# Altium schematic symbol library Main.SchLib: 196 symbols (part 2 of 4)
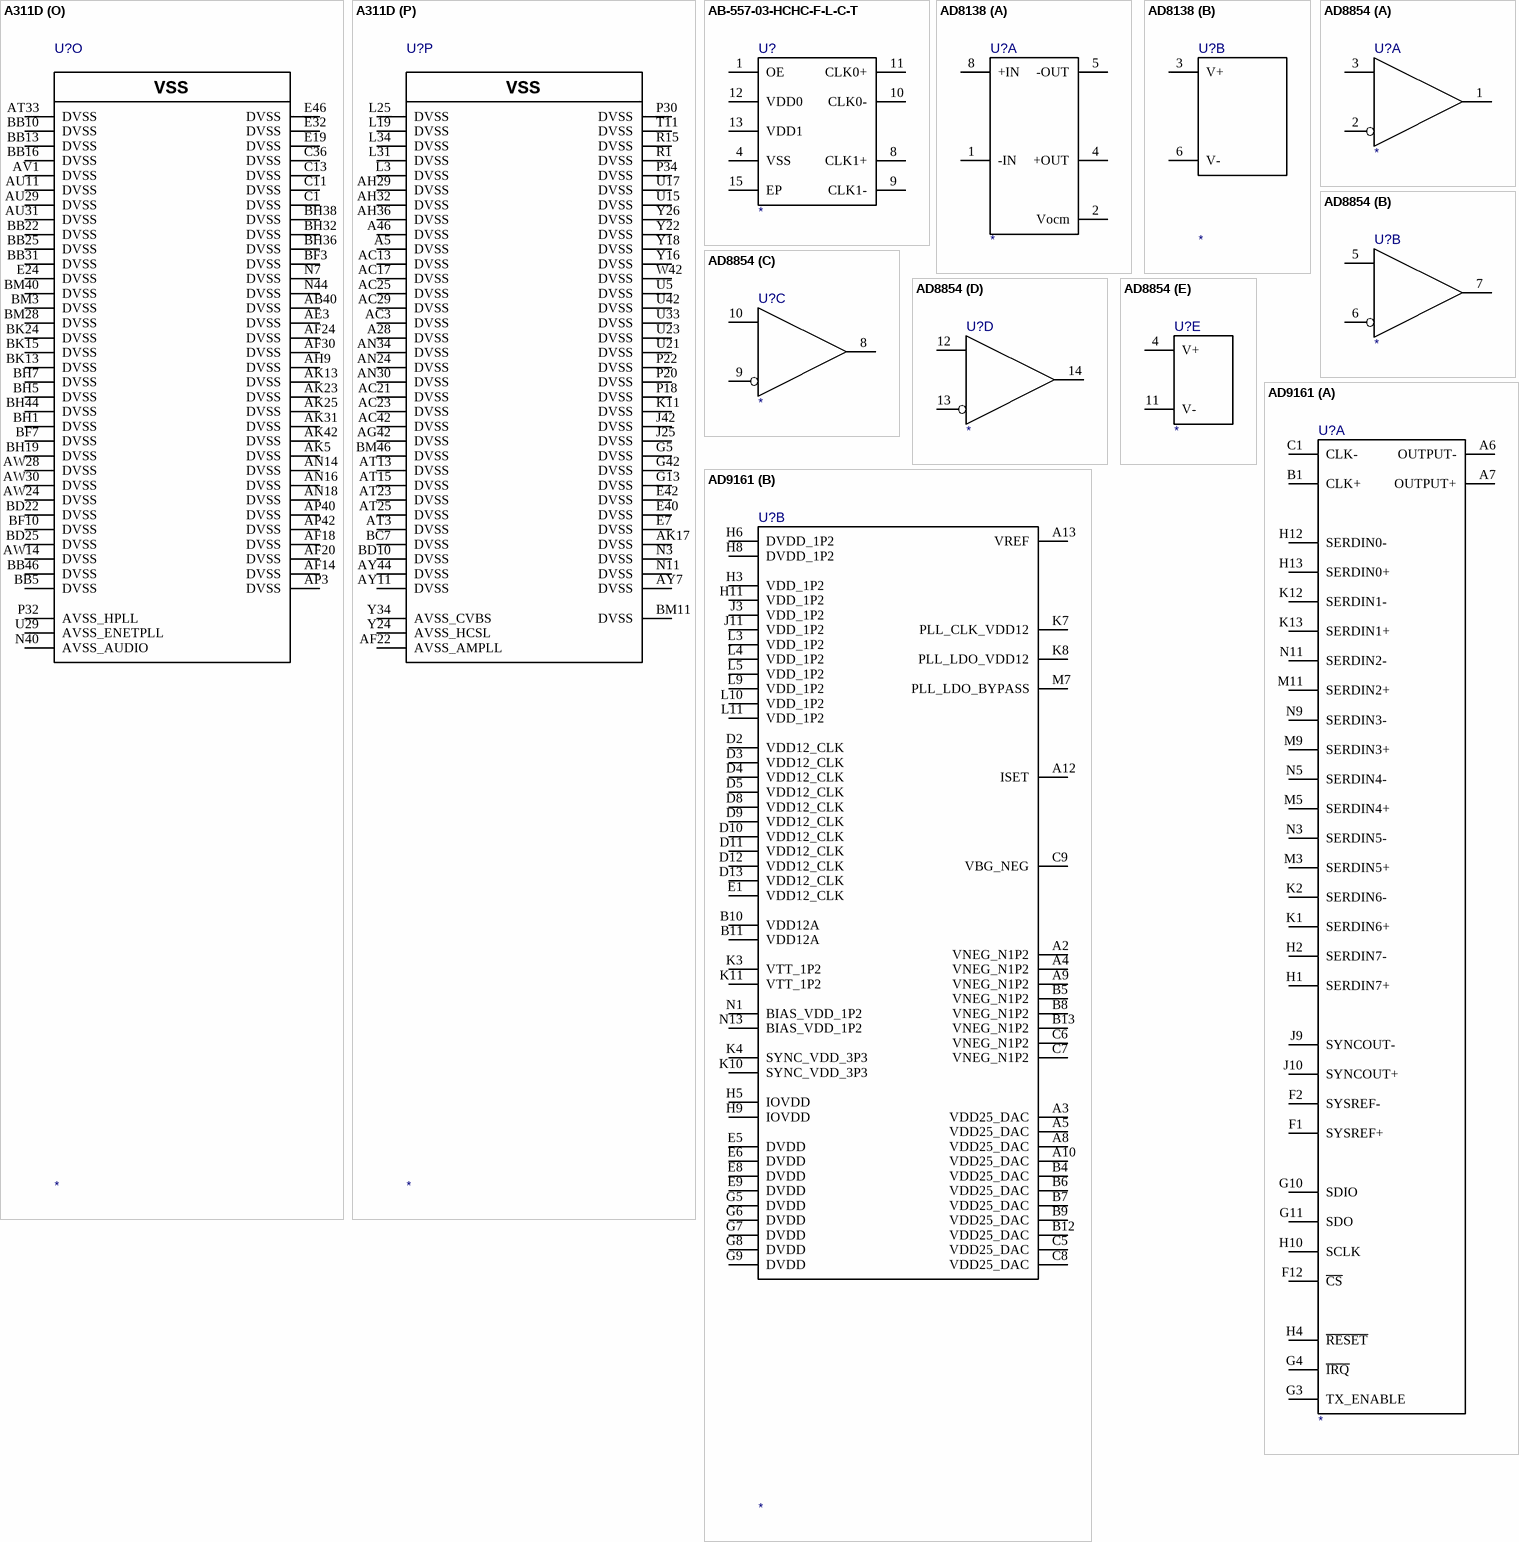
[diagram p41: symbols A311D to AD9161]

## A311D
designator U?
part A pins: A1 DDR_DQ31, A3 DDR_DQ30, A7 DDR_DQSP3, A11 DDR_DQ25, AA3 AC_25, AA5 AC_24, AB7 AC_5, AB9 AC_4, AB11 PZQ, AC1 AC_28, AC5 AC_22, AE5 AC_26, AE7 AC_6, AE9 AC_7, AE11 AC_12, AG1 AC_15, AG3 AC_14, AG5 AC_23, AH7 AC_13, AH11 AC_9, AK1 AC_11, AK3 AC_10, AL7 AC_17, AL9 AC_16, AL11 AC_3, AM3 AC_2, AM5 AC_36, AP1 AC_0, AP5 AC_18, AP7 DDR_DQM1, AP9 DDR_DQ15, AP11 AC_1, AT5 AC_8, AU9 DDR_DQ12, AV3 DDR_DQ14, AV5 DDR_DQ11, AY3 DDR_DQ10, AY5 DDR_DQ9, AY9 DDR_DQ13, BB1 DDR_DQSP1, BB3 DDR_DQSN1, BD3 DDR_DQ8, BD5 DDR_DQ7, BF1 DDR_DQ6, BF5 DDR_DQ5, BH3 DDR_DQ4, BK1 DDR_DQM0, BK3 DDR_DQSN0, BK5 DDR_DQ3, BK7 DDR_DQ1, BM1 DDR_DQSP0, BM5 DDR_DQ2, BM7 DDR_DQ0, C3 DDR_DQ18, C5 DDR_DQ29, C7 DDR_DQSN3, C9 DDR_DQ28, E3 DDR_DQ19, E5 DDR_DQ17, E9 DDR_DQ26, E13 DDR_DQ24, G1 DDR_DQ21, G3 DDR_DQ20, G8 DDR_DQ27, G11 DDR_DQM3, J3 DDR_DQSN2, J5 DDR_DQSP2, K7 DDR_DQM2, K9 DDR_DQ16, L1 DDR_DQ23, L5 DDR_DQ22, N5 AC_35, N9 AC_31, R3 AC_34, R5 AC_20, T7 AC_38, T9 DDR_RSTn, U3 AC_21, W1 AC_33, W3 AC_29, W5 AC_32, W7 AC_37, W9 AC_30, W11 PVREF
part B pins: AE42 DSI_CLKN, AE44 DSI_CLKP, AG46 DSI_D0P, AH44 DSI_D0N, AK44 DSI_D1P, AK46 DSI_D1N, AL36 DSI_CEXT, AL38 DSI_R1K, AL40 DSI_R600, AM42 DSI_D2N, AM44 DSI_D2P, AP44 DSI_D3P, AP46 DSI_D3N
part C pins: C46 HDMITX_2P, E44 HDMITX_2N, G34 HDMI_REXT, G44 HDMITX_1P, G46 HDMITX_1N, J34 HDMI_CEXT, J44 HDMITX_0N, J46 HDMITX_0P, L42 HDMITX_CKN, L44 HDMITX_CKP
part D pins: AA42 CSI_D3_P, AA44 CSI_D3_N, AB36 CSI_CLKA_P, AC44 CSI_D2_P, AC46 CSI_D2_N, AE36 CSI_CLKA_N, AE38 CSI_D1_N, AE40 CSI_D1_P, AH38 CSI_D0_N, AH40 CSI_D0_P, W44 CSI_CLKB_P, W46 CSI_CLKB_N
part E pins: A32 PCIE_RXP, C30 PCIE_CLK_p, C32 PCIE_RXN, C34 PCIE_TXN, E30 PCIE_CLK_n, E34 PCIE_TXP, J28 PCIE_REXT, L28 HCSL_REXT
part F pins: A42 ENET_TXP, A44 ENET_RXP, C42 ENET_TXN, C44 ENET_RXN, E36 ENET_EXTRES, U27 ENET_ATP
part G pins: A36 USBOTG_B_VBUS, A40 USBOTG_B_DM, C38 USBHOST_A_DM, C40 USBOTG_B_DP, E38 USBHOST_A_DP, G31 USB_TXRTUNE, J31 USBOTG_B_ID
part H pins: A15 GPIOA_8, A19 GPIOA_0, A24 GPIOC_4, AB38 GPIOH_7, BB34 GPIOX_8, BB42 GPIOZ_15, BC36 GPIOZ_1, BD31 GPIOX_10, BD34 GPIOX_9, BD42 GPIOZ_12, BD44 GPIOZ_13, BF31 GPIOX_17, BF34 GPIOX_11, BF36 GPIOZ_0, BF39 GPIOZ_14, BF42 GPIOZ_9, BF44 GPIOZ_11, BF46 GPIOZ_10, BH26 GPIOX_19, BH28 GPIOX_14, BH30 GPIOX_13, BH34 GPIOX_3, BH40 GPIOX_7, BH42 GPIOZ_6, BH46 GPIOZ_8, BK26 GPIOX_15, BK28 GPIOX_12, BK30 GPIOX_16, BK32 GPIOX_1, BK34 GPIOX_2, BK38 GPIOX_5, BK40 GPIOX_6, BK42 GPIOZ_2, BK44 GPIOZ_5, BK46 GPIOZ_7, BM24 GPIOX_18, BM32 GPIOX_0, BM36 GPIOX_4, BM42 GPIOZ_3, BM44 GPIOZ_4, C15 GPIOA_9, C17 GPIOA_3, C19 GPIOA_1, C21 GPIOC_2, C24 GPIOC_5, C26 GPIOC_0, C28 GPIOC_6, E15 GPIOA_6, E17 GPIOA_2, E21 GPIOC_3, E28 GPIOC_1, G16 GPIOA_4, G22 GPIOA_11, G25 GPIOA_10, G28 GPIOC_7, G37 GPIOH_8, H40 GPIOH_6, J13 GPIOA_5, J16 GPIOA_7, J19 GPIOA_12, J22 GPIOA_15, J37 GPIOH_1, L16 GPIOA_13, L22 GPIOA_14, L37 GPIOH_0, L40 GPIOH_3, N36 GPIOH_2, W38 GPIOH_5, W40 GPIOH_4
part I pins: T38 CVBS_RSET, T40 CVBS_VREF, U44 CVBS_IOUT, W36 CVBS_COMP
part J pins: N38 VMID, N42 LOLP, R42 LORN, R44 LOLN, R46 LORP, T36 REFP
part K pins: AY38 SARADC_CH0, AY40 SARADC_CH1, BC38 SARADC_CH2, BC40 SARADC_CH3
part L pins: BB19 BOOT_10, BD19 BOOT_11, BF19 BOOT_15, BF22 BOOT_9, BH9 BOOT_1, BH11 BOOT_3, BH13 BOOT_4, BH17 BOOT_6, BH24 BOOT_8, BK9 BOOT_0, BK11 BOOT_2, BK17 BOOT_7, BK19 BOOT_14, BK21 BOOT_12, BM15 BOOT_5, BM19 BOOT_13
part M pins: AK29 VDDAO_0V8, AN32 VDD18_AO_XTAL, AP36 GPIOAO_0, AP38 GPIOAO_1, AT42 GPIOAO_8, AT44 GPIOAO_9, AU36 GPIOAO_10, AU38 GPIOE_2, AU40 GPIOAO_2, AV42 RESET_N, AV44 GPIOAO_6, AV46 GPIOAO_7, AY36 VDDIO_AO, AY42 SYS_OSCIN, BB28 GPIOE_0, BB44 SYS_OSCOUT, BD13 GPIOAO_5, BD16 GPIOAO_4, BD28 GPIOE_1, BF13 GPIOAO_3, BF16 GPIOAO_11, BF28 TEST_N, U31 NC
part N pins: AC15 VDDQ, AC19 VDD_DDR, AC27 VDD_EE, AC31 AVDD18_AUDIO, AC33 AVDD18_CVBS, AF16 VDDQ, AF26 VDD_EE, AF28 VDD_EE, AF32 AVDD18_MIPICSI, AF34 AVDD18_MIPIDSI, AH14 AVDD_DDRPLL, AH17 VDD_DDR, AH20 VDDCPU_B, AH23 AVDD18_DPLL, AH26 VDD_EE, AK15 VDDQ, AK19 VDDCPU_B, AK21 VDDCPU_B, AK27 VDD_EE, AK33 AVDD18_SARADC, AM27 VDD_EE, AN20 VDDCPU_A, AN22 VDDCPU_A, AP27 VDD_EE, AT17 VDDCPU_A, AT19 VDDCPU_A, AT21 VDDCPU_A, AT27 VDD_EE, AW16 VDDCPU_A, AW18 VDDCPU_A, AW20 VDDCPU_A, AW22 VDDCPU_A, AW26 VDD_EE, AW32 VDDIO_Z, AW34 VDDIO_H, BF25 VDDIO_X, BH21 VDDIO_BOOT, E26 VDDIO_C, G19 VDDIO_A, L13 VDDQ, N15 VDDQ, P13 VDDQ, P24 AVDD18_PCIE, P26 AVDD18_ENET, P28 AVDD33_USB, U13 VDDQ, U19 VDD_EE, U25 AVDD18_USB, Y14 VDDQ, Y20 VDD_EE, Y28 AVDD0V8_USB_PCIE, Y30 AVDD0V8_HDMI, Y32 AVDD18_HDMI
part O pins: AB40 DVSS, AE3 DVSS, AF14 DVSS, AF18 DVSS, AF20 DVSS, AF24 DVSS, AF30 DVSS, AH9 DVSS, AK5 DVSS, AK13 DVSS, AK23 DVSS, AK25 DVSS, AK31 DVSS, AK42 DVSS, AN14 DVSS, AN16 DVSS, AN18 DVSS, AP3 DVSS, AP40 DVSS, AP42 DVSS, AT33 DVSS, AU11 DVSS, AU29 DVSS, AU31 DVSS, AV1 DVSS, AW14 DVSS, AW24 DVSS, AW28 DVSS, AW30 DVSS, BB5 DVSS, BB10 DVSS, BB13 DVSS, BB16 DVSS, BB22 DVSS, BB25 DVSS, BB31 DVSS, BB46 DVSS, BD22 DVSS, BD25 DVSS, BF3 DVSS, BF7 DVSS, BF10 DVSS, BH1 DVSS, BH5 DVSS, BH7 DVSS, BH19 DVSS, BH32 DVSS, BH36 DVSS, BH38 DVSS, BH44 DVSS, BK13 DVSS, BK15 DVSS, BK24 DVSS, BM3 DVSS, BM28 DVSS, BM40 DVSS, C1 DVSS, C11 DVSS, C13 DVSS, C36 DVSS, E19 DVSS, E24 DVSS, E32 DVSS, E46 DVSS, N7 DVSS, N40 AVSS_AUDIO, N44 DVSS, P32 AVSS_HPLL, U29 AVSS_ENETPLL
part P pins: A5 DVSS, A28 DVSS, A46 DVSS, AC3 DVSS, AC13 DVSS, AC17 DVSS, AC21 DVSS, AC23 DVSS, AC25 DVSS, AC29 DVSS, AC42 DVSS, AF22 AVSS_AMPLL, AG42 DVSS, AH29 DVSS, AH32 DVSS, AH36 DVSS, AK17 DVSS, AN24 DVSS, AN30 DVSS, AN34 DVSS, AT3 DVSS, AT13 DVSS, AT15 DVSS, AT23 DVSS, AT25 DVSS, AY7 DVSS, AY11 DVSS, AY44 DVSS, BC7 DVSS, BD10 DVSS, BM11 DVSS, BM46 DVSS, E7 DVSS, E40 DVSS, E42 DVSS, G5 DVSS, G13 DVSS, G42 DVSS, J25 DVSS, J42 DVSS, K11 DVSS, L3 DVSS, L19 DVSS, L25 DVSS, L31 DVSS, L34 DVSS, N3 DVSS, N11 DVSS, P18 DVSS, P20 DVSS, P22 DVSS, P30 DVSS, P34 DVSS, R1 DVSS, R15 DVSS, T11 DVSS, U5 DVSS, U15 DVSS, U17 DVSS, U21 DVSS, U23 DVSS, U33 DVSS, U42 DVSS, W42 DVSS, Y16 DVSS, Y18 DVSS, Y22 DVSS, Y24 AVSS_HCSL, Y26 DVSS, Y34 AVSS_CVBS
part A text: DDR INTERFACE
part B text: DSI
part C text: HDMI
part D text: CSI
part E text: PCIe
part F text: ETHERNET
part G text: USB
part H text: GPIO
part I text: CVBS
part J text: AUDIO DAC
part K text: ADC
part L text: BOOT IO
part M text: SYSTEM
part N text: VDD
part O text: VSS
part P text: VSS

## AB-557-03-HCHC-F-L-C-T
designator U?
pins: 1 OE, 4 VSS, 8 CLK1+, 9 CLK1-, 10 CLK0-, 11 CLK0+, 12 VDD0, 13 VDD1, 15 EP

## AD8138
designator U?
part A pins: 1 -IN, 2 Vocm, 4 +OUT, 5 -OUT, 8 +IN
part B pins: 3 V+, 6 V-

## AD8854
designator U?
part A pins: 1 OUTA, 2 -INA, 3 +INA
part B pins: 5 +INB, 6 -INB, 7 OUTB
part C pins: 8 OUTC, 9 -INC, 10 +INC
part D pins: 12 +IND, 13 -IND, 14 OUTD
part E pins: 4 V+, 11 V-

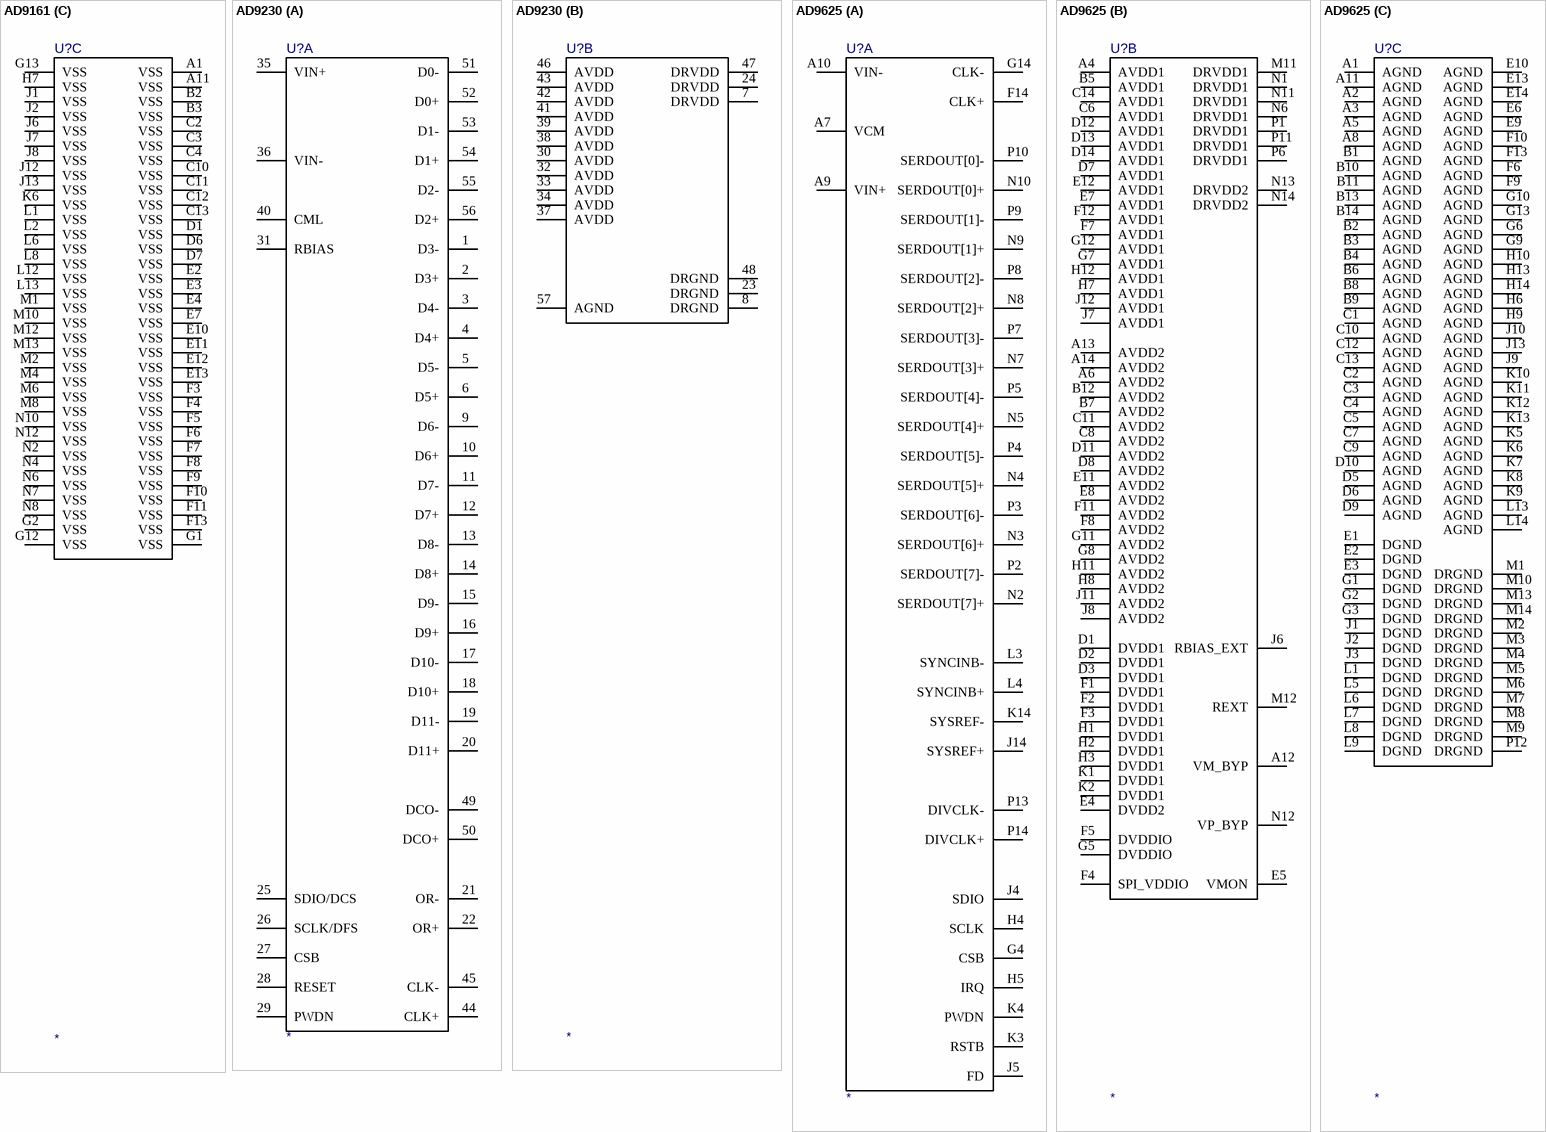
[diagram p17: symbols AD9161 to AD9625]

## AD9161
designator U?
part A pins: A6 OUTPUT-, A7 OUTPUT+, B1 CLK+, C1 CLK-, F1 SYSREF+, F2 SYSREF-, F12 ~{CS}, G3 TX_ENABLE, G4 ~{IRQ}, G10 SDIO, G11 SDO, H1 SERDIN7+, H2 SERDIN7-, H4 ~{RESET}, H10 SCLK, H12 SERDIN0-, H13 SERDIN0+, J9 SYNCOUT-, J10 SYNCOUT+, K1 SERDIN6+, K2 SERDIN6-, K12 SERDIN1-, K13 SERDIN1+, M3 SERDIN5+, M5 SERDIN4+, M9 SERDIN3+, M11 SERDIN2+, N3 SERDIN5-, N5 SERDIN4-, N9 SERDIN3-, N11 SERDIN2-
part B pins: A2 VNEG_N1P2, A3 VDD25_DAC, A4 VNEG_N1P2, A5 VDD25_DAC, A8 VDD25_DAC, A9 VNEG_N1P2, A10 VDD25_DAC, A12 ISET, A13 VREF, B4 VDD25_DAC, B5 VNEG_N1P2, B6 VDD25_DAC, B7 VDD25_DAC, B8 VNEG_N1P2, B9 VDD25_DAC, B10 VDD12A, B11 VDD12A, B12 VDD25_DAC, B13 VNEG_N1P2, C5 VDD25_DAC, C6 VNEG_N1P2, C7 VNEG_N1P2, C8 VDD25_DAC, C9 VBG_NEG, D2 VDD12_CLK, D3 VDD12_CLK, D4 VDD12_CLK, D5 VDD12_CLK, D8 VDD12_CLK, D9 VDD12_CLK, D10 VDD12_CLK, D11 VDD12_CLK, D12 VDD12_CLK, D13 VDD12_CLK, E1 VDD12_CLK, E5 DVDD, E6 DVDD, E8 DVDD, E9 DVDD, G5 DVDD, G6 DVDD, G7 DVDD, G8 DVDD, G9 DVDD, H3 VDD_1P2, H5 IOVDD, H6 DVDD_1P2, H8 DVDD_1P2, H9 IOVDD, H11 VDD_1P2, J3 VDD_1P2, J11 VDD_1P2, K3 VTT_1P2, K4 SYNC_VDD_3P3, K7 PLL_CLK_VDD12, K8 PLL_LDO_VDD12, K10 SYNC_VDD_3P3, K11 VTT_1P2, L3 VDD_1P2, L4 VDD_1P2, L5 VDD_1P2, L9 VDD_1P2, L10 VDD_1P2, L11 VDD_1P2, M7 PLL_LDO_BYPASS, N1 BIAS_VDD_1P2, N13 BIAS_VDD_1P2
part C pins: A1 VSS, A11 VSS, B2 VSS, B3 VSS, C2 VSS, C3 VSS, C4 VSS, C10 VSS, C11 VSS, C12 VSS, C13 VSS, D1 VSS, D6 VSS, D7 VSS, E2 VSS, E3 VSS, E4 VSS, E7 VSS, E10 VSS, E11 VSS, E12 VSS, E13 VSS, F3 VSS, F4 VSS, F5 VSS, F6 VSS, F7 VSS, F8 VSS, F9 VSS, F10 VSS, F11 VSS, F13 VSS, G1 VSS, G2 VSS, G12 VSS, G13 VSS, H7 VSS, J1 VSS, J2 VSS, J6 VSS, J7 VSS, J8 VSS, J12 VSS, J13 VSS, K6 VSS, L1 VSS, L2 VSS, L6 VSS, L8 VSS, L12 VSS, L13 VSS, M1 VSS, M2 VSS, M4 VSS, M6 VSS, M8 VSS, M10 VSS, M12 VSS, M13 VSS, N2 VSS, N4 VSS, N6 VSS, N7 VSS, N8 VSS, N10 VSS, N12 VSS

## AD9230
designator U?
part A pins: 1 D3- "D3 Complement Output Bit.", 2 D3+ "D3 True Output Bit.", 3 D4- "D4 Complement Output Bit.", 4 D4+ "D4 True Output Bit.", 5 D5- "D5 Complement Output Bit.", 6 D5+ "D5 True Output Bit.", 9 D6- "D6 Complement Output Bit.", 10 D6+ "D6 True Output Bit.", 11 D7- "D7 Complement Output Bit.", 12 D7+ "D7 True Output Bit.", 13 D8- "D8 Complement Output Bit.", 14 D8+ "D8 True Output Bit.", 15 D9- "D9 Complement Output Bit.", 16 D9+ "D9 True Output Bit.", 17 D10- "D10 Complement Output Bit.", 18 D10+ "D10 True Output Bit.", 19 D11- "D11 Complement Output Bit (MSB).", 20 D11+ "D11 True Output Bit (MSB).", 21 OR- "Overrange Complement Output Bit.", 22 OR+ "Overrange True Output Bit.", 25 SDIO/DCS "Serial Port Interface (SPI) Data Input/Output (Serial Port Mode); Duty Cycle Stabilizer Select (External Pin Mode).", 26 SCLK/DFS "Serial Port Interface Clock (Serial Port Mode); Data Format Select Pin (External Pin Mode).", 27 CSB "Serial Port Chip Select (Active Low).", 28 RESET "CMOS-Compatible Chip Reset (Active Low).", 29 PWDN "Chip Power-Down.", 31 RBIAS "Set Pin for Chip Bias Current. (Place 1 % 10 kOhm resistor terminated to ground.) Nominally 0.5 V.", 35 VIN+ "Analog Input—True.", 36 VIN- "Analog Input—Complement.", 40 CML "Common-Mode Output Pin. Enabled through the SPI, this pin provides a reference for the optimized internal bias voltage for VIN+/VIN-.", 44 CLK+ "Clock Input—True.", 45 CLK- "Clock Input—Complement.", 49 DCO- "Data Clock Output—Complement.", 50 DCO+ "Data Clock Output—True.", 51 D0- "DO Complement Output Bit (LSB).", 52 D0+ "DO True Output Bit (LSB).", 53 D1- "D1 Complement Output Bit.", 54 D1+ "D1 True Output Bit.", 55 D2- "D2 Complement Output Bit.", 56 D2+ "D2 True Output Bit."
part B pins: 7 DRVDD "1.8 V Digital Output Supply.", 8 DRGND "Digital Output Ground.", 23 DRGND "Digital Output Ground.", 24 DRVDD "1.8 V Digital Output Supply.", 30 AVDD "1.8 V Analog Supply.", 32 AVDD "1.8 V Analog Supply.", 33 AVDD "1.8 V Analog Supply.", 34 AVDD "1.8 V Analog Supply.", 37 AVDD "1.8 V Analog Supply.", 38 AVDD "1.8 V Analog Supply.", 39 AVDD "1.8 V Analog Supply.", 41 AVDD "1.8 V Analog Supply.", 42 AVDD "1.8 V Analog Supply.", 43 AVDD "1.8 V Analog Supply.", 46 AVDD "1.8 V Analog Supply.", 47 DRVDD "1.8 V Digital Output Supply.", 48 DRGND "Digital Output Ground.", 57 AGND "Analog Ground."

## AD9625
designator U?
part A pins: A7 VCM "Analog Input, Common Mode (0.525 V).", A9 VIN+ "Differential Analog Input, True.", A10 VIN- "Differential Analog Input, Complement.", F14 CLK+ "ADC Clock Input, True.", G4 CSB "SPI Chip Select CMOS Input. Active low.", G14 CLK- "ADC Clock Input, Complement.", H4 SCLK "SPI Serial Clock CMOS Input.", H5 IRQ "Interrupt Request Output Signal.", J4 SDIO "SPI Serial Data CMOS Input/Output; Scan Output 1.", J5 FD "Fast Detect Output. This pin requires an external 10 kOhm resistor connected to ground.", J14 SYSREF+ "System Reference Chip Synchronization, True.", K3 RSTB "Chip Digital Reset, Active Low.", K4 PWDN "Power-down.", K14 SYSREF- "System Reference Chip Synchronization, Complement.", L3 SYNCINB- "Synchronization, Complement.", L4 SYNCINB+ "Synchronization, True. SYNCINB LVDS input (active low, true).", N2 SERDOUT[7]+ "Lane 7 CML Output Data, True.", N3 SERDOUT[6]+ "Lane 6 CML Output Data, True.", N4 SERDOUT[5]+ "Lane 5 CML Output Data, True.", N5 SERDOUT[4]+ "Lane 4 CML Output Data, True.", N7 SERDOUT[3]+ "Lane 3 CML Output Data, True.", N8 SERDOUT[2]+ "Lane 2 CML Output Data, True.", N9 SERDOUT[1]+ "Lane 1 CML Output Data, True.", N10 SERDOUT[0]+ "Lane 0 CML Output Data, True.", P2 SERDOUT[7]- "Lane 7 CML Output Data, Complement.", P3 SERDOUT[6]- "Lane 6 CML Output Data, Complement.", P4 SERDOUT[5]- "Lane 5 CML Output Data, Complement.", P5 SERDOUT[4]- "Lane 4 CML Output Data, Complement.", P7 SERDOUT[3]- "Lane 3 CML Output Data, Complement.", P8 SERDOUT[2]- "Lane 2 CML Output Data, Complement.", P9 SERDOUT[1]- "Lane 1 CML Output Data, Complement.", P10 SERDOUT[0]- "Lane 0 CML Output Data, Complement.", P13 DIVCLK- "Divide-by-4 Reference Clock LVDS, Complement.", P14 DIVCLK+ "Divide-by-4 Reference Clock LVDS, True."
part B pins: A4 AVDD1 "ADC Analog Power Supply (1.30 V).", A6 AVDD2 "ADC Analog Power Supply (2.50 V).", A12 VM_BYP "Voltage Bypass.", A13 AVDD2 "ADC Analog Power Supply (2.50 V).", A14 AVDD2 "ADC Analog Power Supply (2.50 V).", B5 AVDD1 "ADC Analog Power Supply (1.30 V).", B7 AVDD2 "ADC Analog Power Supply (2.50 V).", B12 AVDD2 "ADC Analog Power Supply (2.50 V).", C6 AVDD1 "ADC Analog Power Supply (1.30 V).", C8 AVDD2 "ADC Analog Power Supply (2.50 V).", C11 AVDD2 "ADC Analog Power Supply (2.50 V).", C14 AVDD1 "ADC Analog Power Supply (1.30 V).", D1 DVDD1 "ADC Digital Power Supply (1.30 V).", D2 DVDD1 "ADC Digital Power Supply (1.30 V).", D3 DVDD1 "ADC Digital Power Supply (1.30 V).", D7 AVDD1 "ADC Analog Power Supply (1.30 V).", D8 AVDD2 "ADC Analog Power Supply (2.50 V).", D11 AVDD2 "ADC Analog Power Supply (2.50 V).", D12 AVDD1 "ADC Analog Power Supply (1.30 V).", D13 AVDD1 "ADC Analog Power Supply (1.30 V).", D14 AVDD1 "ADC Analog Power Supply (1.30 V).", E4 DVDD2 "ADC Digital Power Supply (2.5 V).", E5 VMON "CTAT Voltage Monitor Output.", E7 AVDD1 "ADC Analog Power Supply (1.30 V).", E8 AVDD2 "ADC Analog Power Supply (2.50 V).", E11 AVDD2 "ADC Analog Power Supply (2.50 V).", E12 AVDD1 "ADC Analog Power Supply (1.30 V).", F1 DVDD1 "ADC Digital Power Supply (1.30 V).", F2 DVDD1 "ADC Digital Power Supply (1.30 V).", F3 DVDD1 "ADC Digital Power Supply (1.30 V).", F4 SPI_VDDIO "SPI Digital Power Supply (2.50 V).", F5 DVDDIO "Digital I/O Power Supply (2.50 V).", F7 AVDD1 "ADC Analog Power Supply (1.30 V).", F8 AVDD2 "ADC Analog Power Supply (2.50 V).", F11 AVDD2 "ADC Analog Power Supply (2.50 V).", F12 AVDD1 "ADC Analog Power Supply (1.30 V).", G5 DVDDIO "Digital I/O Power Supply (2.50 V).", G7 AVDD1 "ADC Analog Power Supply (1.30 V).", G8 AVDD2 "ADC Analog Power Supply (2.50 V).", G11 AVDD2 "ADC Analog Power Supply (2.50 V).", G12 AVDD1 "ADC Analog Power Supply (1.30 V).", H1 DVDD1 "ADC Digital Power Supply (1.30 V).", H2 DVDD1 "ADC Digital Power Supply (1.30 V).", H3 DVDD1 "ADC Digital Power Supply (1.30 V).", H7 AVDD1 "ADC Analog Power Supply (1.30 V).", H8 AVDD2 "ADC Analog Power Supply (2.50 V).", H11 AVDD2 "ADC Analog Power Supply (2.50 V).", H12 AVDD1 "ADC Analog Power Supply (1.30 V).", J6 RBIAS_EXT "Reference Bias. This pin requires an external 10 kOhm resistor connected to ground.", J7 AVDD1 "ADC Analog Power Supply (1.30 V).", J8 AVDD2 "ADC Analog Power Supply (2.50 V).", J11 AVDD2 "ADC Analog Power Supply (2.50 V).", J12 AVDD1 "ADC Analog Power Supply (1.30 V).", K1 DVDD1 "ADC Digital Power Supply (1.30 V).", K2 DVDD1 "ADC Digital Power Supply (1.30 V).", M11 DRVDD1 "Power Supply (1.3 V) Reference Clock Divider, VCO, and Synthesizer.", M12 REXT "External Resistor, 10 kOhm to Ground.", N1 DRVDD1 "Serial Digital Power Supply (1.3 V).", N6 DRVDD1 "Serial Digital Power Supply (1.3 V).", N11 DRVDD1 "Serial Digital Power Supply (1.3 V).", N12 VP_BYP "Voltage Bypass.", N13 DRVDD2 "Power Supply (2.5 V) Reference Clock Divider for SYNCINB±, DIVCLK±.", N14 DRVDD2 "Power Supply (2.5 V) Reference Clock Divider for SYNCINB±, DIVCLK±.", P1 DRVDD1 "Serial Digital Power Supply (1.3 V).", P6 DRVDD1 "Serializer Digital Power Supply (1.30 V).", P11 DRVDD1 "Serializer Digital Power Supply (1.30 V)."
part C pins: A1 AGND "ADC Analog Ground. These pins connect to the analog ground plane.", A2 AGND "ADC Analog Ground. These pins connect to the analog ground plane.", A3 AGND "ADC Analog Ground. These pins connect to the analog ground plane.", A5 AGND "ADC Analog Ground. This pin connects to the analog ground plane.", A8 AGND "ADC Analog Ground. This pin connects to the analog ground plane.", A11 AGND "ADC Analog Ground. This pin connects to the analog ground plane.", B1 AGND "ADC Analog Ground. These pins connect to the analog ground plane.", B2 AGND "ADC Analog Ground. These pins connect to the analog ground plane.", B3 AGND "ADC Analog Ground. These pins connect to the analog ground plane.", B4 AGND "ADC Analog Ground. These pins connect to the analog ground plane.", B6 AGND "ADC Analog Ground. This pin connects to the analog ground plane.", B8 AGND "ADC Analog Ground. These pins connect to the analog ground plane.", B9 AGND "ADC Analog Ground. These pins connect to the analog ground plane.", B10 AGND "ADC Analog Ground. These pins connect to the analog ground plane.", B11 AGND "ADC Analog Ground. These pins connect to the analog ground plane.", B13 AGND "ADC Analog Ground. These pins connect to the analog ground plane.", B14 AGND "ADC Analog Ground. These pins connect to the analog ground plane.", C1 AGND "ADC Analog Ground. These pins connect to the analog ground plane.", C2 AGND "ADC Analog Ground. These pins connect to the analog ground plane.", C3 AGND "ADC Analog Ground. These pins connect to the analog ground plane.", C4 AGND "ADC Analog Ground. These pins connect to the analog ground plane.", C5 AGND "ADC Analog Ground. These pins connect to the analog ground plane.", C7 AGND "ADC Analog Ground. This pin connects to the analog ground plane.", C9 AGND "ADC Analog Ground. These pins connect to the analog ground plane.", C10 AGND "ADC Analog Ground. These pins connect to the analog ground plane.", C12 AGND "ADC Analog Ground. These pins connect to the analog ground plane.", C13 AGND "ADC Analog Ground. These pins connect to the analog ground plane.", D5 AGND "ADC Analog Ground. These pins connect to the analog ground plane.", D6 AGND "ADC Analog Ground. These pins connect to the analog ground plane.", D9 AGND "ADC Analog Ground. These pins connect to the analog ground plane.", D10 AGND "ADC Analog Ground. These pins connect to the analog ground plane.", E1 DGND "Digital Control Ground Supply. These pins connect to the digital ground plane.", E2 DGND "Digital Control Ground Supply. These pins connect to the digital ground plane.", E3 DGND "Digital Control Ground Supply. These pins connect to the digital ground plane.", E6 AGND "ADC Analog Ground. This pin connects to the analog ground plane.", E9 AGND "ADC Analog Ground. These pins connect to the analog ground plane.", E10 AGND "ADC Analog Ground. These pins connect to the analog ground plane.", E13 AGND "ADC Analog Ground. These pins connect to the analog ground plane.", E14 AGND "ADC Analog Ground. These pins connect to the analog ground plane.", F6 AGND "ADC Analog Ground. This pin connects to the analog ground plane.", F9 AGND "ADC Analog Ground. These pins connect to the analog ground plane.", F10 AGND "ADC Analog Ground. These pins connect to the analog ground plane.", F13 AGND "ADC Analog Ground. This pin connects to the analog ground plane.", G1 DGND "Digital Control Ground Supply. These pins connect to the digital ground plane.", G2 DGND "Digital Control Ground Supply. These pins connect to the digital ground plane.", G3 DGND "Digital Control Ground Supply. These pins connect to the digital ground plane.", G6 AGND "ADC Analog Ground. This pin connects to the analog ground plane.", G9 AGND "ADC Analog Ground. These pins connect to the analog ground plane.", G10 AGND "ADC Analog Ground. These pins connect to the analog ground plane.", G13 AGND "ADC Analog Ground. This pin connects to the analog ground plane.", H6 AGND "ADC Analog Ground. This pin connects to the analog ground plane.", H9 AGND "ADC Analog Ground. These pins connect to the analog ground plane.", H10 AGND "ADC Analog Ground. These pins connect to the analog ground plane.", H13 AGND "ADC Analog Ground. These pins connect to the analog ground plane.", H14 AGND "ADC Analog Ground. These pins connect to the analog ground plane.", J1 DGND "Digital Control Ground Supply. These pins connect to the digital ground plane.", J2 DGND "Digital Control Ground Supply. These pins connect to the digital ground plane.", J3 DGND "Digital Control Ground Supply. These pins connect to the digital ground plane.", J9 AGND "ADC Analog Ground. These pins connect to the analog ground plane.", J10 AGND "ADC Analog Ground. These pins connect to the analog ground plane.", J13 AGND "ADC Analog Ground. This pin connects to the analog ground plane.", K5 AGND "ADC Analog Ground. These pins connect to the analog ground plane.", K6 AGND "ADC Analog Ground. These pins connect to the analog ground plane.", K7 AGND "ADC Analog Ground. These pins connect to the analog ground plane.", K8 AGND "ADC Analog Ground. These pins connect to the analog ground plane.", K9 AGND "ADC Analog Ground. These pins connect to the analog ground plane.", K10 AGND "ADC Analog Ground. These pins connect to the analog ground plane.", K11 AGND "ADC Analog Ground. These pins connect to the analog ground plane.", K12 AGND "ADC Analog Ground. These pins connect to the analog ground plane.", K13 AGND "ADC Analog Ground. These pins connect to the analog ground plane.", L1 DGND "Digital Control Ground Supply. This pin connects to the digital ground plane.", L5 DGND "Digital Control Ground Supply. These pins connect to the digital ground plane.", L6 DGND "Digital Control Ground Supply. These pins connect to the digital ground plane.", L7 DGND "Digital Control Ground Supply. These pins connect to the digital ground plane.", L8 DGND "Digital Control Ground Supply. These pins connect to the digital ground plane.", L9 DGND "Digital Control Ground Supply. These pins connect to the digital ground plane.", L13 AGND "ADC Analog Ground. These pins connect to the analog ground plane.", L14 AGND "ADC Analog Ground. These pins connect to the analog ground plane.", M1 DRGND "Digital Driver Ground Supply. These pins connect to the digital driver ground plane.", M2 DRGND "Digital Driver Ground Supply. These pins connect to the digital driver ground plane.", M3 DRGND "Digital Driver Ground Supply. These pins connect to the digital driver ground plane.", M4 DRGND "Digital Driver Ground Supply. These pins connect to the digital driver ground plane.", M5 DRGND "Digital Driver Ground Supply. These pins connect to the digital driver ground plane.", M6 DRGND "Digital Driver Ground Supply. These pins connect to the digital driver ground plane.", M7 DRGND "Digital Driver Ground Supply. These pins connect to the digital driver ground plane.", M8 DRGND "Digital Driver Ground Supply. These pins connect to the digital driver ground plane.", M9 DRGND "Digital Driver Ground Supply. These pins connect to the digital driver ground plane.", M10 DRGND "Digital Driver Ground Supply. These pins connect to the digital driver ground plane.", M13 DRGND "Digital Driver Ground Supply. This pin connects to the digital driver ground plane.", M14 DRGND "Digital Driver Ground Supply. This pin connects to the digital driver ground plane.", P12 DRGND "Digital Driver Ground Supply. This pin connects to the digital driver ground plane."

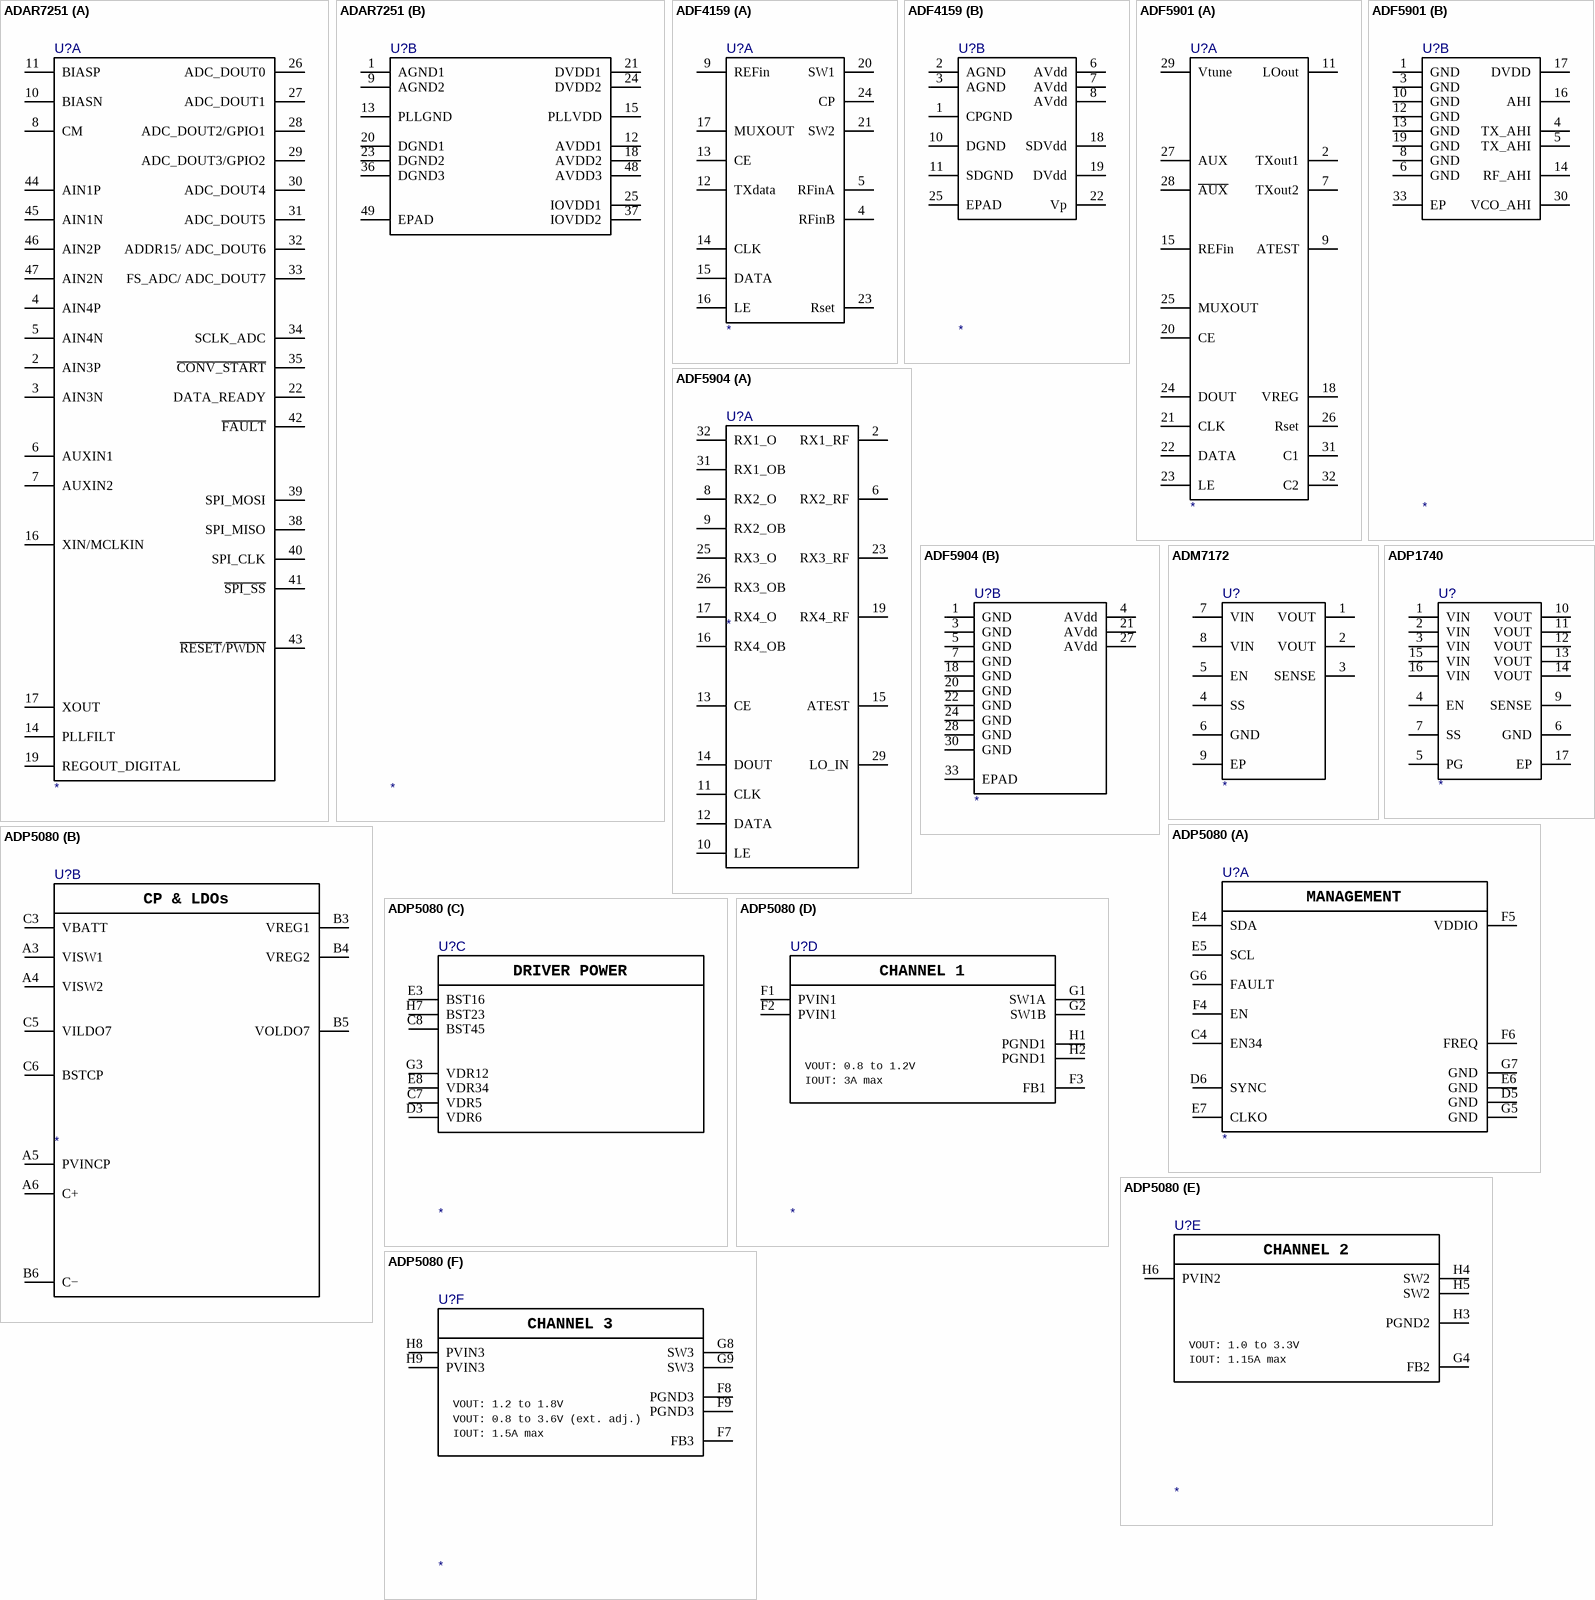
[diagram p18: symbols ADAR7251 to ADP5080]

## ADAR7251
designator U?
part A pins: 2 AIN3P "Noninverting Input to Differential Analog Channel 3.", 3 AIN3N "Inverting Input to Differential Analog Channel 3.", 4 AIN4P "Noninverting Input to Differential Analog Channel 4.", 5 AIN4N "Inverting Input to Differential Analog Channel 4.", 6 AUXIN1 "Auxiliary ADC Analog Input 1. Single-ended analog input channel.", 7 AUXIN2 "Auxiliary ADC Analog Input 2. Single-ended analog input channel.", 8 CM "ADC Reference Output. Connect a 10 pF capacitor in parallel with a 100 nF capacitor from this pin to AGNDx.", 10 BIASN "Internal Bias Generator. Decouple to AGNDx using a 0.47 pF capacitor.", 11 BIASP "Internal Bias Generator. Decouple to AVDDx using a 0.47 pF capacitor.", 14 PLLFILT "Filter Components Connection for PLL. See Figure 60.", 16 XIN/MCLKIN "Internal Oscillator Input/Clock Input. If using an external crystal, connect it between the XIN and XOUT pins. If not using a crystal, a single-ended clock must be provided at the MCLKIN pin. The ADAR7251 accepts a clock frequency range of 16 MHz to 54 MHz.", 17 XOUT "Internal Oscillator Output Connection for External Crystal.", 19 REGOUT_DIGITAL "LDO Regulator Output for Internal Digital Core (1.8 V, Typical). Decouple to DGNDx. See Figure 60. Connect REGOUT-DIGITAL to the DVDDx pins if using the internal regulator to supplythe 1.8 V to the digital core.", 22 DATA_READY "ADC Conversion Data Ready Output. Connect to the DSP general-purpose input/output (GPIO) in the system.", 26 ADC_DOUT0 "ADC Data Output (Serial Mode) or ADC Data Output Bit 0 and Bit 8 (PPI Mode). Refer to the ADC Serial Mode and ADC PPI (Byte Wide Mode) sections for function information.", 27 ADC_DOUT1 "ADC Data Output (Serial Mode) or ADC Data Output Bit 1/9 (PPI Mode). Refer to the ADC Serial Mode and ADC PPI (Byte Wide Mode) sections for function information.", 28 ADC_DOUT2/GPIO1 "ADC Data Output Bit 2 and Bit 10 (PPI Mode)/General-Purpose Input/Output 1. Refer to the ADC Serial Mode section for function information.", 29 ADC_DOUT3/GPIO2 "ADC Data Output Bit 3 and Bit 11 (PPI Mode)/General-Purpose Input/Output 2. Refer to the ADC PPI (Byte Wide Mode) section for function information.", 30 ADC_DOUT4 "ADC Data Output Bit 4 and Bit 12 (PPI Mode). Refer to the ADC PPI (Byte Wide Mode) section for function information.", 31 ADC_DOUT5 "ADC Data Output Bit 5 and Bit 13 (PPI Mode). Refer to the ADC PPI (Byte Wide Mode) section for function information.", 32 ADDR15/ ADC_DOUT6 "Device Address Setting for the SPI Control Interface/ADC Data Output Bit 6 and Bit 14 in PPI mode. This pin sets Bit 1 of the SPI device address. Connect to either DGNDx or lOVDDx as desired using a 10 kO pull-down or pull-up resistor. Refer to the ADC PPI (Byte Wide Mode) section for function information.", 33 FS_ADC/ ADC_DOUT7 "Active Low Frame Synchronization Signal for Default ADC Data (Serial Mode)/ADC Data Output Bit 7 and Bit 15 (PPI Mode). Refer to the ADC PPI (Byte Wide Mode) section for function information.", 34 SCLK_ADC "Serial Bit Clock for the ADC Data Output (Serial Mode and PPI Mode). This pin is an input in slave mode or is an output in master mode.", 35 ~{CONV_START} "ADC Conversion Start in DAQ/PPI/Serial Mode (Active Low). An active low signal initiates an ADC conversion. See the Theory of Operation section for further details.", 38 SPI_MISO "SPI Control Interface Slave Data Output.", 39 SPI_MOSI "SPI Control Interface Slave Data Input.", 40 SPI_CLK "SPI Control Interface Serial clock Input.", 41 ~{SPI_SS} "SPI Control Interface Slave Select (Active Low Input). Connect an external 10k pull-up resistor to lOVDDx.", 42 ~{FAULT} "Digital Output. This pin becomes active under fault condition. Connect an external 10k pull-up resistor to lOVDDx. This pin can be used as an interrupt input to the microcontroller or DSP in case of faults.", 43 ~{RESET}/~{PWDN} "Active Low Reset Input/Power-Down. The ADAR7251 requires an external reset signal to hold the RESET input low until AVDDx is within the specified operating range. When held low, this pin places the ADAR7251 into power-down mode.", 44 AIN1P "Noninverting Input to Differential Analog Channel 1.", 45 AIN1N "Inverting Input to Differential Analog Channel 1.", 46 AIN2P "Noninverting Input to Differential Analog Channel 2.", 47 AIN2N "Inverting Input to Differential Analog Channel 2."
part B pins: 1 AGND1 "Analog Ground. This pin is the ground reference point for all analog blocks in the ADAR7251.", 9 AGND2 "Analog Ground. This pin is the ground reference point for all analog blocks in the ADAR7251.", 12 AVDD1 "Analog Supply Voltage, 3.3 V. Decouple this supply pin to AGNDx. See Figure 60.", 13 PLLGND "Analog Ground for PLL. Connect to a ground plane directly on the board.", 15 PLLVDD "Analog Supply for Analog PLL, 3.3 V. Decouple to the PLLGND pin (Pin 13) using a 0.1 pF multilayer ceramic capacitor (MLCC). Connect to AVDDx or an external 3.3 V source. It is recommended to add the filter for a clean 3.3 V source and for good PLL performance.", 18 AVDD2 "Analog Supply Voltage, 3.3 V. Decouple this supply pin to AGNDx. See Figure 60.", 20 DGND1 "Digital Ground. This pin is the ground reference point for the digital circuitry on the ADAR7251.", 21 DVDD1 "Digital Core Power Supply Input. Connect decoupling capacitors between the DVDDx and DGNDx pins. See Figure 60. The voltage on this pin is 1.8 V. This pin can be connected to REGOUT_DIGITAL (Pin 19), or to the external 1.8 V source if the internal LDO is not used.", 23 DGND2 "Digital Ground. This pin is the ground reference point for digital circuitry on the ADAR7251.", 24 DVDD2 "Digital Core Power Supply Input. Connect decoupling capacitors between the DVDDx and DGNDx pins. See Figure 60. The voltage on this pin is 1.8 V. This pin can be connected to REGOUT_DIGITAL (Pin 19), or to the external 1.8 V source if the internal LDO is not used.", 25 IOVDD1 "Logic Power Supply Input. The voltage supplied at this pin determines at what voltage the interface operates. Connect decoupling capacitors between the lOVDDx and DGNDx pins. See Figure 60.", 36 DGND3 "Digital Ground. This pin is the ground reference point for digital circuitry on the ADAR7251.", 37 IOVDD2 "Logic Power Supply Input. The voltage supplied at this pin determines at what voltage the interface operates. Connect decoupling capacitors between the lOVDDx and DGNDx pins. See Figure 60.", 48 AVDD3 "Analog Supply Voltage. Decouple this supply pin to AGNDx.", 49 EPAD "Exposed Pad. The exposed pad on the bottom of the package must be soldered to the ground plane on the board for power dissipation."

## ADF4159
designator U?
part A pins: 4 RFinB "Complementary Input to the RF Prescaler. Decouple this pin to the ground plane with a small bypass capacitor, typically 100 pF.", 5 RFinA "Input to the RF Prescaler. This small signal input is normally ac-coupled from the VCO.", 9 REFin "Reference Input. This CMOS input has a nominal threshold of DVdd/2 and an equivalent input resistance of 100 kO. It can be driven from a TTL or CMOS crystal oscillator, or it can be ac-coupled.", 12 TXdata "Transmit Data Pin. This pin provides the data to be transmitted in FSK or PSK mode and also controls some ramping functionality.", 13 CE "Chip Enable (1.8 V Logic). A logic low on this pin powers down the device and places the charge pump output into three-state mode.", 14 CLK "Serial Clock Input. This input is used to clock in the serial data to the registers. The data is latched into the input shift register on the CLK rising edge. This input is a high impedance CMOS input.", 15 DATA "Serial Data Input. The serial data is loaded MSB first; the three LSBs are the control bits. This input is a high impedance CMOS input.", 16 LE "Load Enable Input. When LE is high, the data stored in the input shift register is loaded into one of the eight latches; the latch is selected using the control bits. This input is a high impedance CMOS input.", 17 MUXOUT "Multiplexer Output. This pin allows various internal signals to be accessed externally.", 20 SW1 "Switches for Fast Lock.", 21 SW2 "Switches for Fast Lock.", 23 Rset "Connecting a resistor between this pin and ground sets the maximum charge pump output current. The relationship between Icp and Rset is as follows: Icpmax = 24.48/Rset where: Icpmax = 4.8 mA. Rset= 5.1 kO.", 24 CP "Charge Pump Output. When the charge pump is enabled, this output provides ±la> to the external loop filter, which, in turn, drives the external VCO."
part B pins: 1 CPGND "Charge Pump Ground. This pin is the ground return path for the charge pump.", 2 AGND "Analog Ground.", 3 AGND "Analog Ground.", 6 AVdd "Positive Power Supply for the RF Section. Place decoupling capacitors to the ground plane as close as possible to these pins.", 7 AVdd "Positive Power Supply for the RF Section. Place decoupling capacitors to the ground plane as close as possible to these pins.", 8 AVdd "Positive Power Supply for the RF Section. Place decoupling capacitors to the ground plane as close as possible to these pins.", 10 DGND "Digital Ground.", 11 SDGND "Digital Z-A Modulator Ground.This pin is the ground return path for the Z-A modulator.", 18 SDVdd "Power Supply for the Digital Z-A Modulator. Place decoupling capacitors to the ground plane as close as possible to this pin.", 19 DVdd "Positive Power Supply for the Digital Section. Place decoupling capacitors to the digital ground plane as close as possible to this pin.", 22 Vp "Charge Pump Power Supply. The voltage on this pin must be greater than or equal to AVdo.", 25 EPAD "Exposed Pad. The LFCSP has an exposed pad that must be connected to AGND."

## ADF5901
designator U?
part A pins: 2 TXout1 "24 GHz Tx Output 1.", 7 TXout2 "24GHz Tx Output 2.", 9 ATEST "Analog Test Pin.", 11 LOout "LO Output.", 15 REFin "Reference Input. This pin is a CMOS input with a nominal threshold of DVDD/2 and a de equivalent input resistance of 100k. See Figure 14. This input can be driven from a TTL or CMOS crystal oscillator, or it can be ac-coupled.", 18 VREG "Internal 1.8 V Regulator Output. Connect a 220 nF capacitor to ground as close as possible to this pin.", 20 CE "Chip Enable. A logic low on this pin powers down the device. Taking the pin high powers up the device, depending on the status of the power-down bit, PD1.", 21 CLK "Serial Clock Input. This serial clock input clocks in the serial data to the registers. The data is latched into the 32-bit shift register on the CLK rising edge. This input is a high impedance CMOS input.", 22 DATA "Serial Data Input. The serial data is loaded MSB first with the four LSBs as the control bits. This input is a high impedance CMOS input.", 23 LE "Load Enable, CMOS Input. When LE goes high, the data stored in the shift registers is loaded into one of the 16 latches with the latch selected via the control bits.", 24 DOUT "Serial Data Output.", 25 MUXOUT "Multiplexer Output. This multiplexer output allows either the scaled RF or the scaled reference frequency to be accessed externally.", 26 Rset "Resistor Setting Pin. Connecting a 5.1 kO resistor between this pin and GND sets an internal current. The nominal voltage potential at the Rset pin is 0.62 V.", 27 AUX "Auxiliary Output. The VCO/2 output or VCO/4 is available.", 28 ~{AUX} "Complementary Auxiliary Output.The VCO/2 output or VCO/4 is available.", 29 Vtune "Control Input to the VCO.This voltage determines the output.", 31 C1 "Decoupling Capacitor 1. Place a 47 nF capacitor to ground as close as possible to this pin.", 32 C2 "Decoupling Capacitor 2. Place a 220 nF capacitor to ground as close as possible to this pin."
part B pins: 1 GND "RF Ground. Tie all ground pins together.", 3 GND "RF Ground. Tie all ground pins together.", 4 TX_AHI "Voltage Supply for the Tx Section. Connect decoupling capacitors (0.1 pF, 1 nF, and 10 pF) to the ground plane as close as possible to this pin.TX.AHI must be the same value as AHI.", 5 TX_AHI "Voltage Supply for the Tx Section. Connect decoupling capacitors (0.1 pF, 1 nF, and 10 pF) to the ground plane as close as possible to this pin.TX.AHI must be the same value as AHI.", 6 GND "RF Ground. Tie all ground pins together.", 8 GND "RF Ground. Tie all ground pins together.", 10 GND "RF Ground. Tie all ground pins together.", 12 GND "RF Ground. Tie all ground pins together.", 13 GND "RF Ground. Tie all ground pins together.", 14 RF_AHI "Voltage Supply for the RF Section. Connect decoupling capacitors (0.1 pF, 1 nF, and 10 pF) to the ground plane as close as possible to this pin. RF_AHI must be the same value as AHI.", 16 AHI "Voltage Supply for the Analog Section. Connect decoupling capacitors (0.1 pF, 1 nF, and 10 pF) to the ground plane as close as possible to this pin.", 17 DVDD "Digital Power Supply.This supply may range from 3.135 V to 3.465 V. Place decoupling capacitors (0.1 pF, 1 nF, and 10 pF) to the ground plane as close as possible to this pin. DVDD must be the same value as AHI.", 19 GND "RF Ground. Tie all ground pins together.", 30 VCO_AHI "Voltage Supply for the VCO Section. Connect decoupling capacitors (0.1 pF, 1 nF, and 10 pF) to the ground plane as close as possible to this pin. VCO_AHI must be the same value as AHI.", 33 EP "Exposed Pad. The LFCSP has an exposed pad that must be connected to GND."

## ADF5904
designator U?
part A pins: 2 RX1_RF "Channel 1 RF Input.", 6 RX2_RF "Channel 2 RF Input.", 8 RX2_O "Channel 2 Baseband Output.", 9 RX2_OB "Channel 2 Complementary Baseband Output.", 10 LE "Load Enable, CMOS Input. When LE goes high, data stored in the shift registers is loaded into one of the four latches; the control bits select the latch.", 11 CLK "Serial Clock Input. This serial clock clocks in the serial data to the registers. Data latches into the 32-bit shift register on the CLK rising edge. This input is a high impedance CMOS input.", 12 DATA "Serial Data Input. The serial data loads MSB first and the two LSBs are the control bits. This input is a high impedance CMOS input.", 13 CE "Chip Enable. A logic low on this pin powers down the device.", 14 DOUT "Serial Data Output.", 15 ATEST "Analog Test Output", 16 RX4_OB "Channel 4 Complementary Baseband Output.", 17 RX4_O "Channel 4 Baseband Output.", 19 RX4_RF "Channel 4 RF Input.", 23 RX3_RF "Channel 3 RF Input.", 25 RX3_O "Channel 3 Baseband Output.", 26 RX3_OB "Channel 3 Complementary Baseband Output.", 29 LO_IN "Local Oscillator Input.", 31 RX1_OB "Channel 1 Complementary Baseband Output.", 32 RX1_O "Channel 1 Baseband Output."
part B pins: 1 GND "Ground Pins.", 3 GND "Ground Pins.", 4 AVdd "Analog Power Supply. The supply range is 3.3 V± 5%. Place decoupling capacitors (0.1 pF, 1 nF, and 10 pF) to the ground plane as close as possible to this pin.", 5 GND "Ground Pins.", 7 GND "Ground Pins.", 18 GND "Ground Pins.", 20 GND "Ground Pins.", 21 AVdd "Analog Power Supply. The supply range is 3.3 V± 5%. Place decoupling capacitors (0.1 pF, 1 nF, and 10 pF) to the ground plane as close as possible to this pin.", 22 GND "Ground Pins.", 24 GND "Ground Pins.", 27 AVdd "Analog Power Supply. The supply range is 3.3 V± 5%. Place decoupling capacitors (0.1 pF, 1 nF, and 10 pF) to the ground plane as close as possible to this pin.", 28 GND "Ground Pins.", 30 GND "Ground Pins.", 33 EPAD "Exposed Pad. The LFCSP has an exposed pad that must connect to GND."

## ADM7172
designator U?
pins: 1 VOUT, 2 VOUT, 3 SENSE, 4 SS, 5 EN, 6 GND, 7 VIN, 8 VIN, 9 EP

## ADP1740
designator U?
pins: 1 VIN, 2 VIN, 3 VIN, 4 EN, 5 PG, 6 GND, 7 SS, 9 SENSE, 10 VOUT, 11 VOUT, 12 VOUT, 13 VOUT, 14 VOUT, 15 VIN, 16 VIN, 17 EP

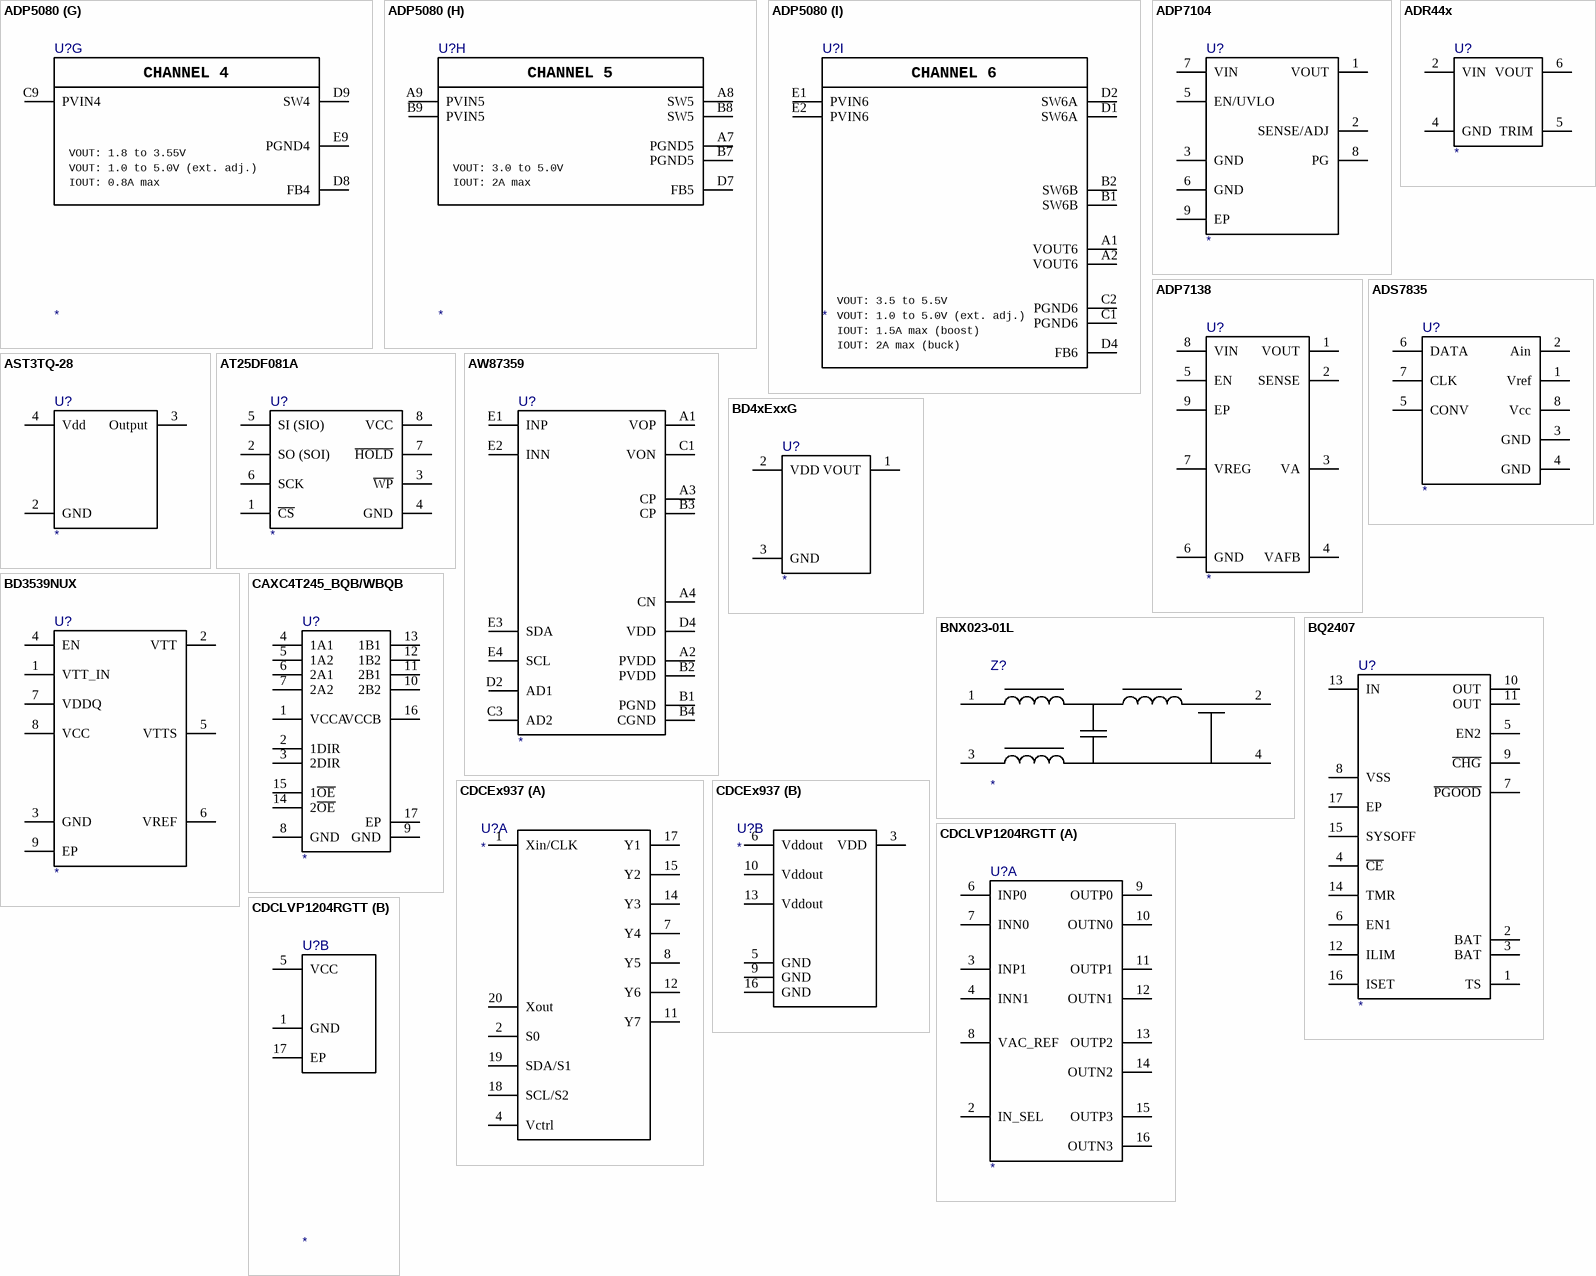
[diagram p19: symbols ADP5080 to CDCLVP1204RGTT]

## ADP5080
designator U?
part A pins: C4 EN34, D5 GND, D6 SYNC, E4 SDA, E5 SCL, E6 GND, E7 CLKO, F4 EN, F5 VDDIO, F6 FREQ, G5 GND, G6 FAULT, G7 GND
part B pins: A3 VISW1, A4 VISW2, A5 PVINCP, A6 C+, B3 VREG1, B4 VREG2, B5 VOLDO7, B6 C−, C3 VBATT, C5 VILDO7, C6 BSTCP
part C pins: C7 VDR5, C8 BST45, D3 VDR6, E3 BST16, E8 VDR34, G3 VDR12, H7 BST23
part D pins: F1 PVIN1, F2 PVIN1, F3 FB1, G1 SW1A, G2 SW1B, H1 PGND1, H2 PGND1
part E pins: G4 FB2, H3 PGND2, H4 SW2, H5 SW2, H6 PVIN2
part F pins: F7 FB3, F8 PGND3, F9 PGND3, G8 SW3, G9 SW3, H8 PVIN3, H9 PVIN3
part G pins: C9 PVIN4, D8 FB4, D9 SW4, E9 PGND4
part H pins: A7 PGND5, A8 SW5, A9 PVIN5, B7 PGND5, B8 SW5, B9 PVIN5, D7 FB5
part I pins: A1 VOUT6, A2 VOUT6, B1 SW6B, B2 SW6B, C1 PGND6, C2 PGND6, D1 SW6A, D2 SW6A, D4 FB6, E1 PVIN6, E2 PVIN6
part A text: MANAGEMENT
part B text: CP & LDOs
part C text: DRIVER POWER
part D text: CHANNEL 1; VOUT: 0.8 to 1.2V; IOUT: 3A max
part E text: CHANNEL 2; VOUT: 1.0 to 3.3V; IOUT: 1.15A max
part F text: CHANNEL 3; VOUT: 1.2 to 1.8V; VOUT: 0.8 to 3.6V (ext. adj.); IOUT: 1.5A max
part G text: CHANNEL 4; VOUT: 1.8 to 3.55V; VOUT: 1.0 to 5.0V (ext. adj.); IOUT: 0.8A max
part H text: CHANNEL 5; VOUT: 3.0 to 5.0V; IOUT: 2A max
part I text: CHANNEL 6; VOUT: 3.5 to 5.5V; VOUT: 1.0 to 5.0V (ext. adj.); IOUT: 1.5A max (boost); IOUT: 2A max (buck)

## ADP7104
designator U?
pins: 1 VOUT, 2 SENSE/ADJ, 3 GND, 5 EN/UVLO, 6 GND, 7 VIN, 8 PG, 9 EP

## ADP7138
designator U?
pins: 1 VOUT, 2 SENSE, 3 VA, 4 VAFB, 5 EN, 6 GND, 7 VREG, 8 VIN, 9 EP

## ADR44x
designator U?
pins: 2 VIN, 4 GND, 5 TRIM, 6 VOUT

## ADS7835
designator U?
pins: 1 Vref, 2 Ain, 3 GND, 4 GND, 5 CONV, 6 DATA, 7 CLK, 8 Vcc

## AST3TQ-28
designator U?
pins: 2 GND, 3 Output, 4 Vdd

## AT25DF081A
designator U?
pins: 1 ~{CS}, 2 SO (SOI), 3 ~{WP}, 4 GND, 5 SI (SIO), 6 SCK, 7 ~{HOLD}, 8 VCC

## AW87359
designator U?
pins: A1 VOP, A2 PVDD, A3 CP, A4 CN, B1 PGND, B2 PVDD, B3 CP, B4 CGND, C1 VON, C3 AD2, D2 AD1, D4 VDD, E1 INP, E2 INN, E3 SDA, E4 SCL

## BD4xExxG
designator U?
pins: 1 VOUT, 2 VDD, 3 GND

## BD3539NUX
designator U?
pins: 1 VTT_IN, 2 VTT, 3 GND, 4 EN, 5 VTTS, 6 VREF, 7 VDDQ, 8 VCC, 9 EP

## BNX023-01L
designator Z?
pins: 1 B, 2 CB, 3 G, 4 CG

## BQ2407
designator U?
pins: 1 TS, 2 BAT, 3 BAT, 4 ~{CE}, 5 EN2, 6 EN1, 7 ~{PGOOD}, 8 VSS, 9 ~{CHG}, 10 OUT, 11 OUT, 12 ILIM, 13 IN, 14 TMR, 15 SYSOFF, 16 ISET, 17 EP

## CAXC4T245_BQB/WBQB
designator U?
pins: 1 VCCA, 2 1DIR, 3 2DIR, 4 1A1, 5 1A2, 6 2A1, 7 2A2, 8 GND, 9 GND, 10 2B2, 11 2B1, 12 1B2, 13 1B1, 14 2~{OE}, 15 1~{OE}, 16 VCCB, 17 EP

## CDCEx937
designator U?
part A pins: 1 Xin/CLK, 2 S0, 4 Vctrl, 7 Y4, 8 Y5, 11 Y7, 12 Y6, 14 Y3, 15 Y2, 17 Y1, 18 SCL/S2, 19 SDA/S1, 20 Xout
part B pins: 3 VDD, 5 GND, 6 Vddout, 9 GND, 10 Vddout, 13 Vddout, 16 GND

## CDCLVP1204RGTT
designator U?
part A pins: 2 IN_SEL, 3 INP1, 4 INN1, 6 INP0, 7 INN0, 8 VAC_REF, 9 OUTP0, 10 OUTN0, 11 OUTP1, 12 OUTN1, 13 OUTP2, 14 OUTN2, 15 OUTP3, 16 OUTN3
part B pins: 1 GND, 5 VCC, 17 EP

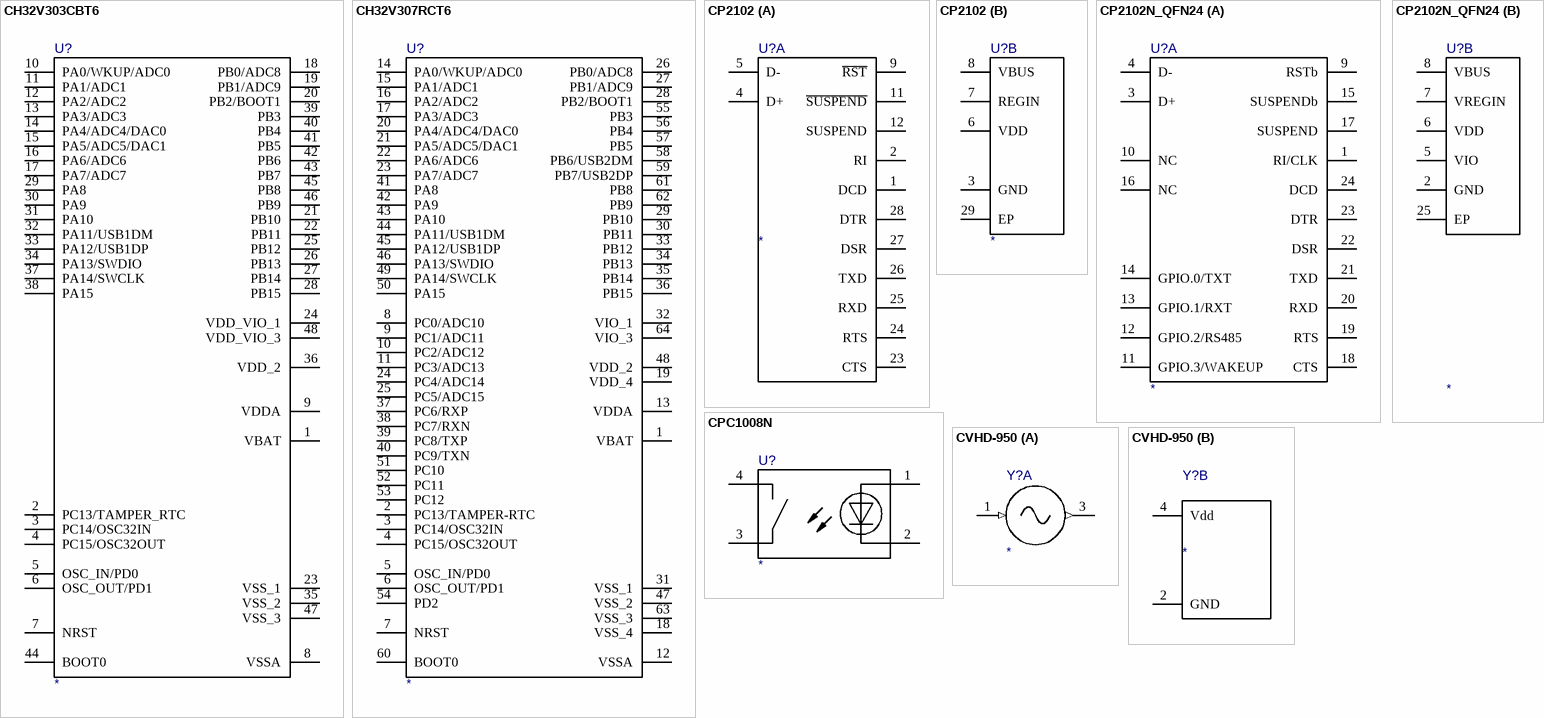
[diagram p20: symbols CH32V303CBT6 to CVHD-950]

## CH32V303CBT6
designator U?
pins: 1 VBAT, 2 PC13/TAMPER_RTC, 3 PC14/OSC32IN, 4 PC15/OSC32OUT, 5 OSC_IN/PD0, 6 OSC_OUT/PD1, 7 NRST, 8 VSSA, 9 VDDA, 10 PA0/WKUP/ADC0, 11 PA1/ADC1, 12 PA2/ADC2, 13 PA3/ADC3, 14 PA4/ADC4/DAC0, 15 PA5/ADC5/DAC1, 16 PA6/ADC6, 17 PA7/ADC7, 18 PB0/ADC8, 19 PB1/ADC9, 20 PB2/BOOT1, 21 PB10, 22 PB11, 23 VSS_1, 24 VDD_VIO_1, 25 PB12, 26 PB13, 27 PB14, 28 PB15, 29 PA8, 30 PA9, 31 PA10, 32 PA11/USB1DM, 33 PA12/USB1DP, 34 PA13/SWDIO, 35 VSS_2, 36 VDD_2, 37 PA14/SWCLK, 38 PA15, 39 PB3, 40 PB4, 41 PB5, 42 PB6, 43 PB7, 44 BOOT0, 45 PB8, 46 PB9, 47 VSS_3, 48 VDD_VIO_3

## CH32V307RCT6
designator U?
pins: 1 VBAT, 2 PC13/TAMPER-RTC, 3 PC14/OSC32IN, 4 PC15/OSC32OUT, 5 OSC_IN/PD0, 6 OSC_OUT/PD1, 7 NRST, 8 PC0/ADC10, 9 PC1/ADC11, 10 PC2/ADC12, 11 PC3/ADC13, 12 VSSA, 13 VDDA, 14 PA0/WKUP/ADC0, 15 PA1/ADC1, 16 PA2/ADC2, 17 PA3/ADC3, 18 VSS_4, 19 VDD_4, 20 PA4/ADC4/DAC0, 21 PA5/ADC5/DAC1, 22 PA6/ADC6, 23 PA7/ADC7, 24 PC4/ADC14, 25 PC5/ADC15, 26 PB0/ADC8, 27 PB1/ADC9, 28 PB2/BOOT1, 29 PB10, 30 PB11, 31 VSS_1, 32 VIO_1, 33 PB12, 34 PB13, 35 PB14, 36 PB15, 37 PC6/RXP, 38 PC7/RXN, 39 PC8/TXP, 40 PC9/TXN, 41 PA8, 42 PA9, 43 PA10, 44 PA11/USB1DM, 45 PA12/USB1DP, 46 PA13/SWDIO, 47 VSS_2, 48 VDD_2, 49 PA14/SWCLK, 50 PA15, 51 PC10, 52 PC11, 53 PC12, 54 PD2, 55 PB3, 56 PB4, 57 PB5, 58 PB6/USB2DM, 59 PB7/USB2DP, 60 BOOT0, 61 PB8, 62 PB9, 63 VSS_3, 64 VIO_3

## CP2102
designator U?
part A pins: 1 DCD, 2 RI, 4 D+, 5 D-, 9 ~{RST}, 11 ~{SUSPEND}, 12 SUSPEND, 23 CTS, 24 RTS, 25 RXD, 26 TXD, 27 DSR, 28 DTR
part B pins: 3 GND, 6 VDD, 7 REGIN, 8 VBUS, 29 EP

## CP2102N_QFN24
designator U?
part A pins: 1 RI/CLK, 3 D+, 4 D-, 9 RSTb, 10 NC, 11 GPIO.3/WAKEUP, 12 GPIO.2/RS485, 13 GPIO.1/RXT, 14 GPIO.0/TXT, 15 SUSPENDb, 16 NC, 17 SUSPEND, 18 CTS, 19 RTS, 20 RXD, 21 TXD, 22 DSR, 23 DTR, 24 DCD
part B pins: 2 GND, 5 VIO, 6 VDD, 7 VREGIN, 8 VBUS, 25 EP

## CPC1008N
designator U?
pins: 1 A, 2 C, 3 E, 4 C

## CVHD-950
designator Y?
part A pins: 1 Volt Control (in), 3 OUT (out)
part B pins: 2 GND, 4 Vdd

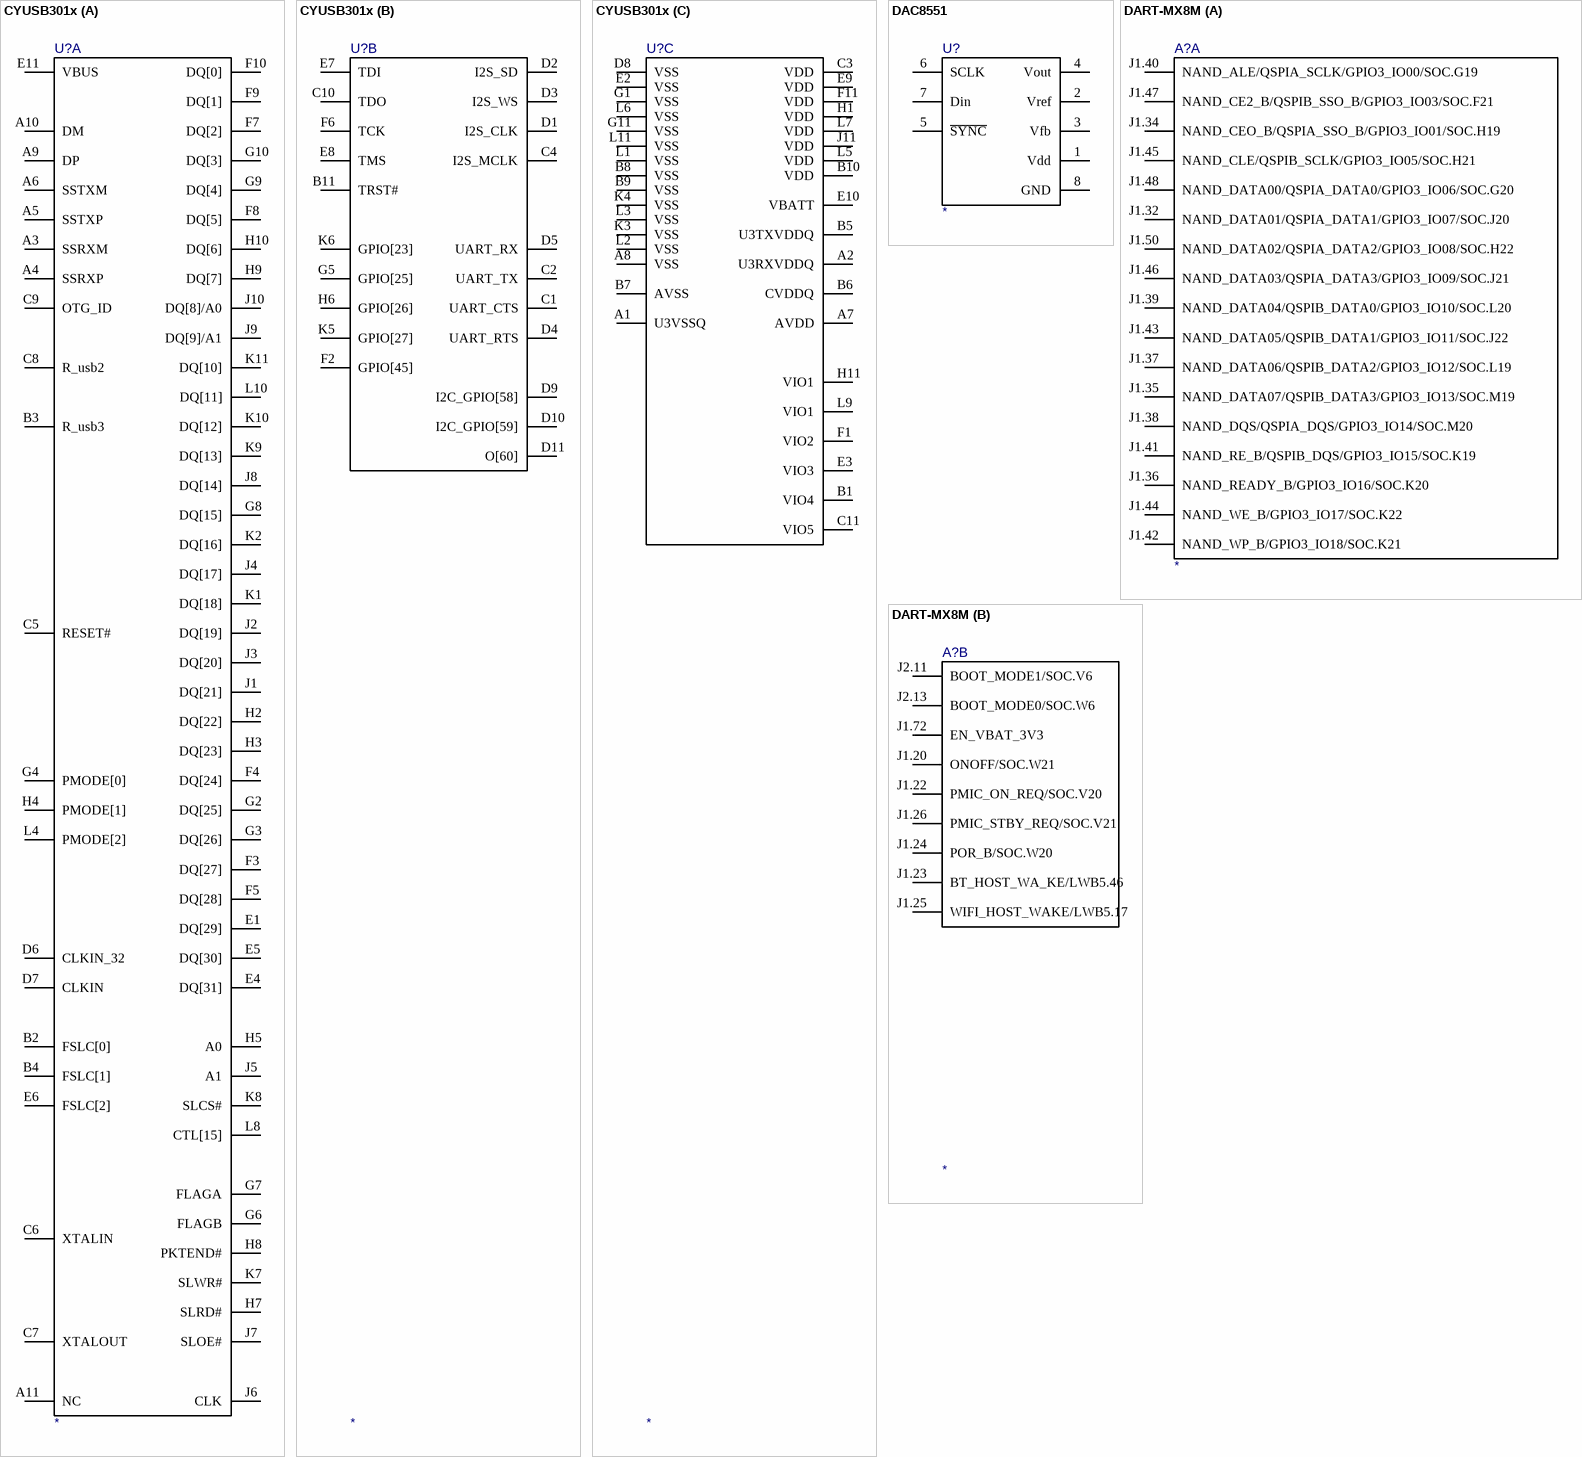
[diagram p21: symbols CYUSB301x to DART-MX8M]

## CYUSB301x
designator U?
part A pins: A3 SSRXM, A4 SSRXP, A5 SSTXP, A6 SSTXM, A9 DP, A10 DM, A11 NC, B2 FSLC[0], B3 R_usb3, B4 FSLC[1], C5 RESET#, C6 XTALIN, C7 XTALOUT, C8 R_usb2, C9 OTG_ID, D6 CLKIN_32, D7 CLKIN, E1 DQ[29], E4 DQ[31], E5 DQ[30], E6 FSLC[2], E11 VBUS, F3 DQ[27], F4 DQ[24], F5 DQ[28], F7 DQ[2], F8 DQ[5], F9 DQ[1], F10 DQ[0], G2 DQ[25], G3 DQ[26], G4 PMODE[0], G6 FLAGB, G7 FLAGA, G8 DQ[15], G9 DQ[4], G10 DQ[3], H2 DQ[22], H3 DQ[23], H4 PMODE[1], H5 A0, H7 SLRD#, H8 PKTEND#, H9 DQ[7], H10 DQ[6], J1 DQ[21], J2 DQ[19], J3 DQ[20], J4 DQ[17], J5 A1, J6 CLK, J7 SLOE#, J8 DQ[14], J9 DQ[9]/A1, J10 DQ[8]/A0, K1 DQ[18], K2 DQ[16], K7 SLWR#, K8 SLCS#, K9 DQ[13], K10 DQ[12], K11 DQ[10], L4 PMODE[2], L8 CTL[15], L10 DQ[11]
part B pins: B11 TRST#, C1 UART_CTS, C2 UART_TX, C4 I2S_MCLK, C10 TDO, D1 I2S_CLK, D2 I2S_SD, D3 I2S_WS, D4 UART_RTS, D5 UART_RX, D9 I2C_GPIO[58], D10 I2C_GPIO[59], D11 O[60], E7 TDI, E8 TMS, F2 GPIO[45], F6 TCK, G5 GPIO[25], H6 GPIO[26], K5 GPIO[27], K6 GPIO[23]
part C pins: A1 U3VSSQ, A2 U3RXVDDQ, A7 AVDD, A8 VSS, B1 VIO4, B5 U3TXVDDQ, B6 CVDDQ, B7 AVSS, B8 VSS, B9 VSS, B10 VDD, C3 VDD, C11 VIO5, D8 VSS, E2 VSS, E3 VIO3, E9 VDD, E10 VBATT, F1 VIO2, F11 VDD, G1 VSS, G11 VSS, H1 VDD, H11 VIO1, J11 VDD, K3 VSS, K4 VSS, L1 VSS, L2 VSS, L3 VSS, L5 VDD, L6 VSS, L7 VDD, L9 VIO1, L11 VSS

## DAC8551
designator U?
pins: 1 Vdd, 2 Vref, 3 Vfb, 4 Vout, 5 ~{SYNC}, 6 SCLK, 7 Din, 8 GND

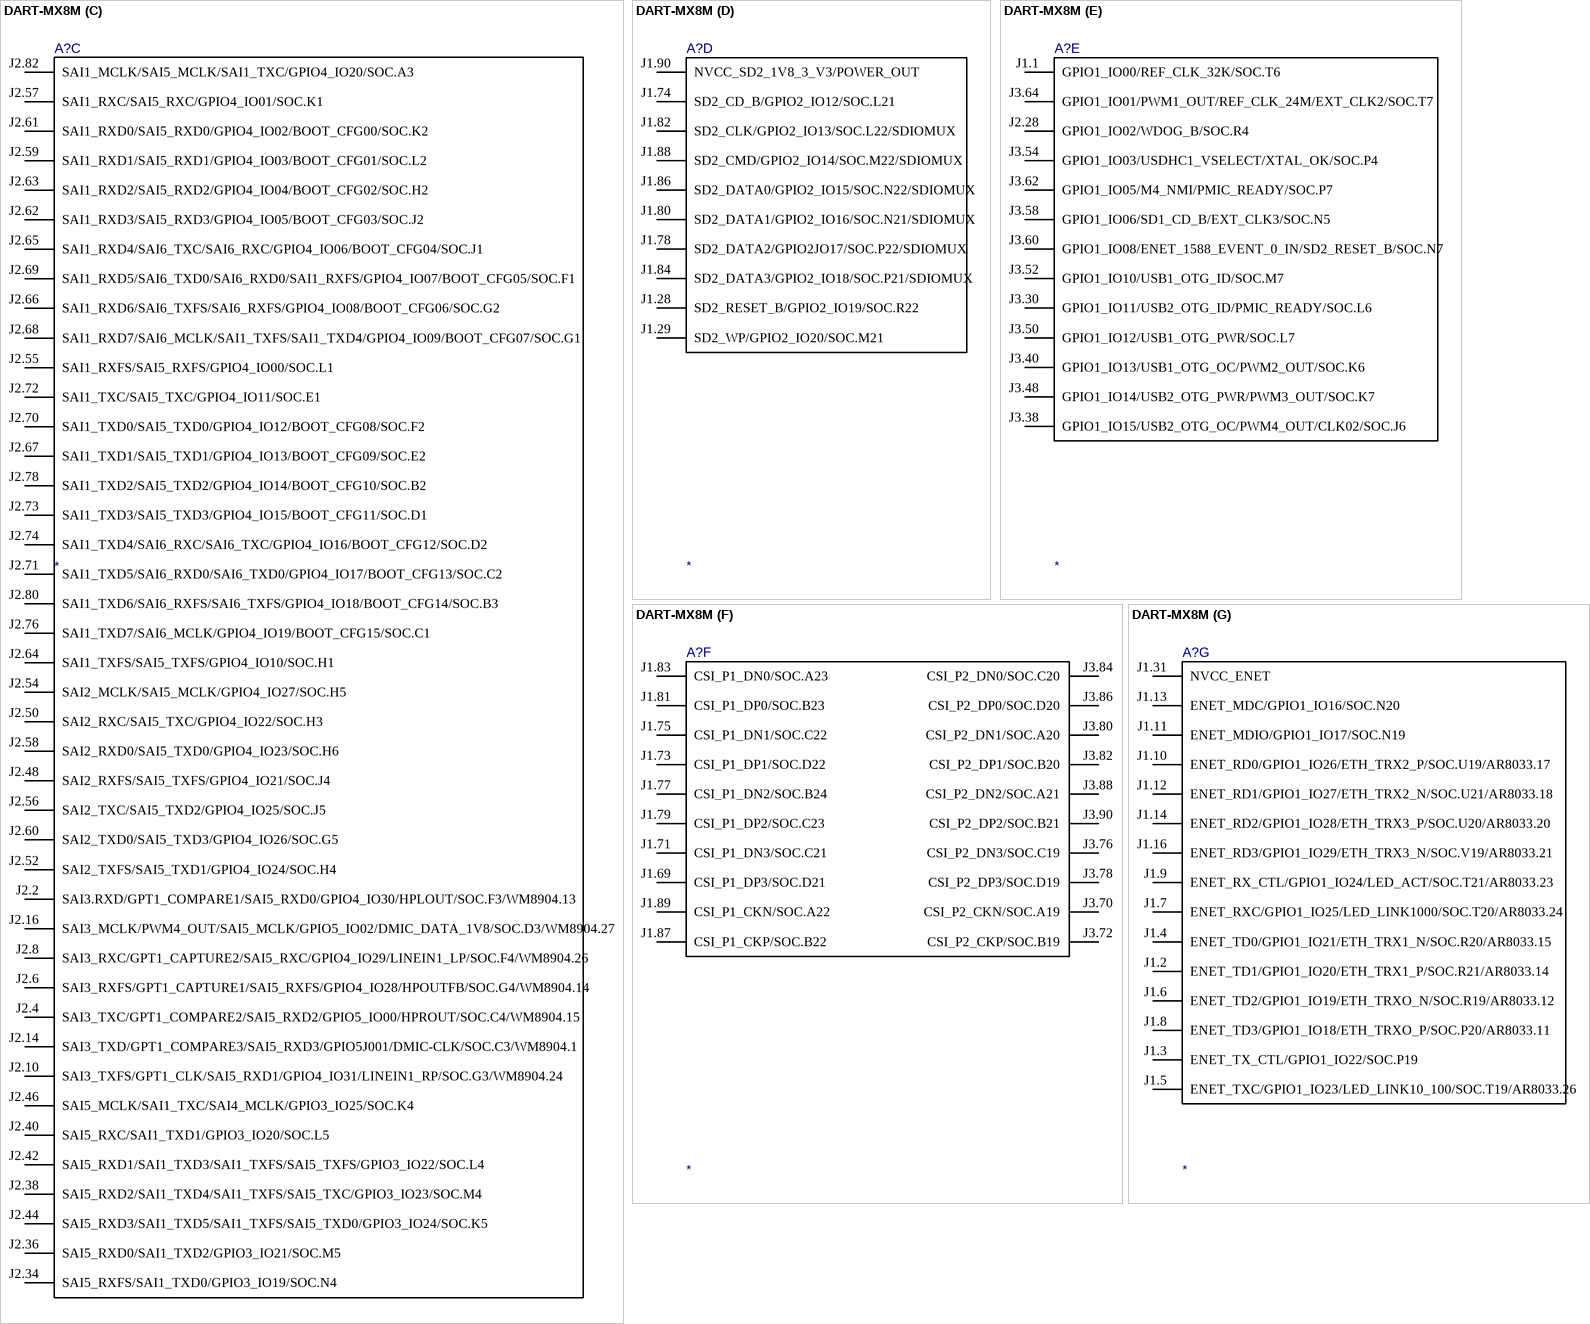
[diagram p22: symbol DART-MX8M]

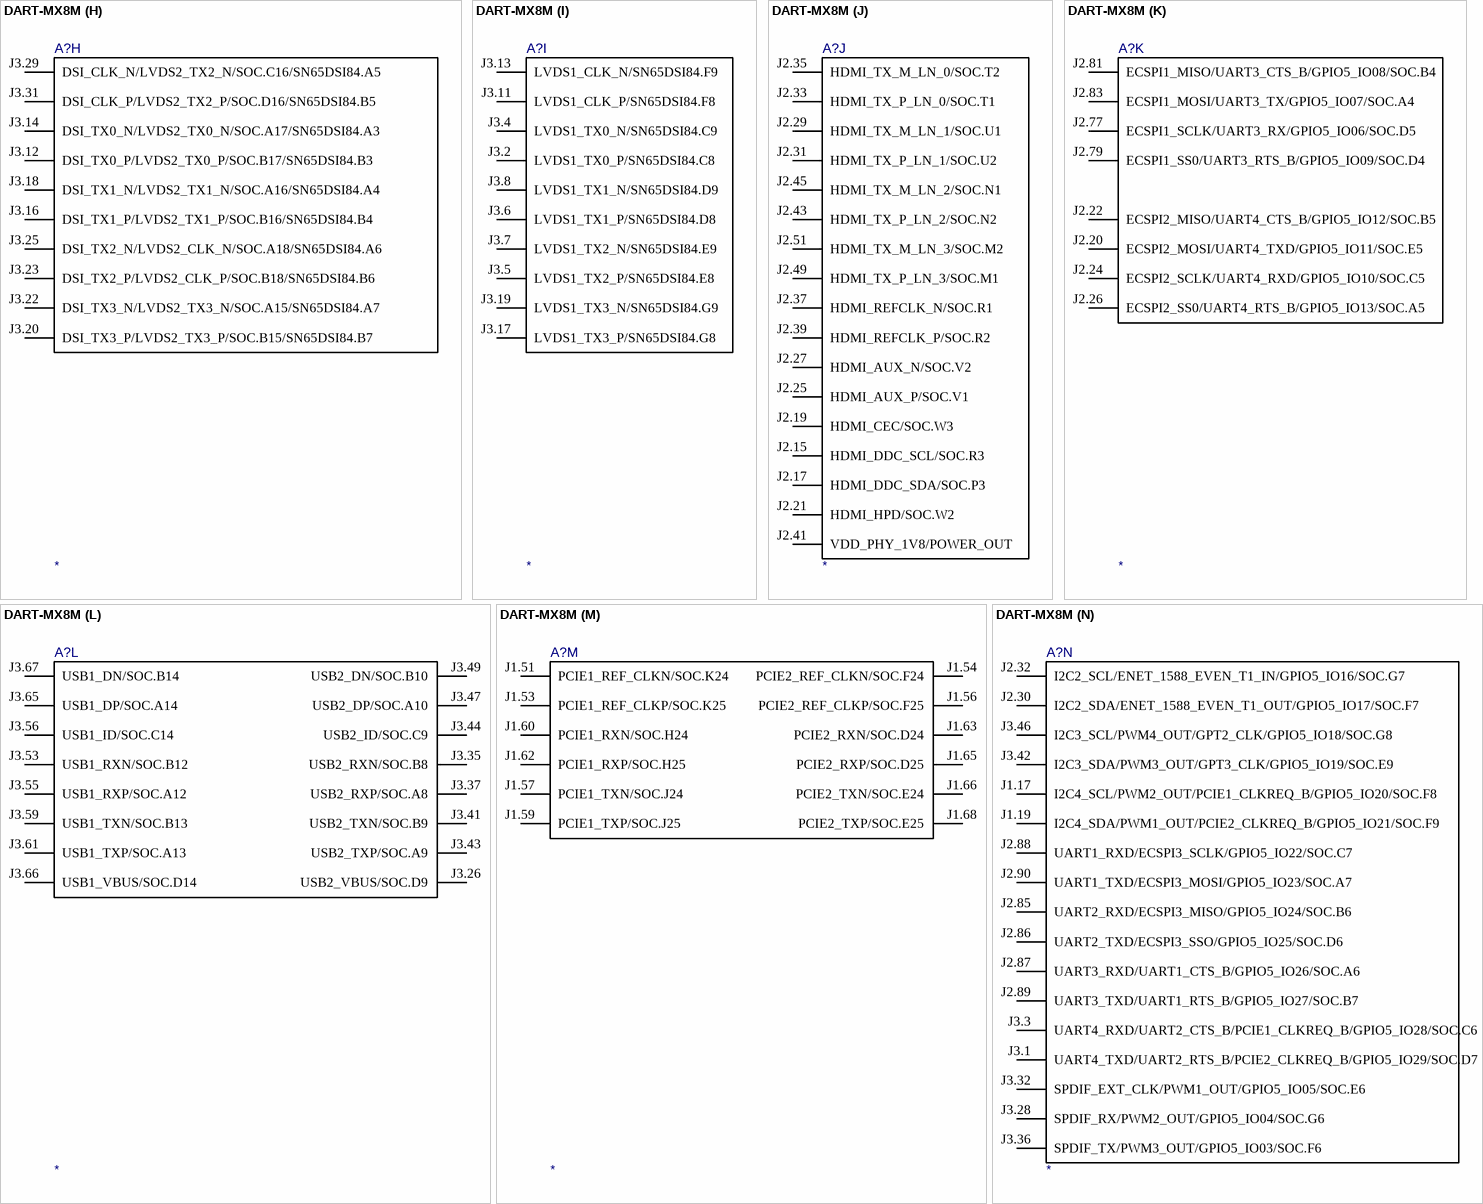
[diagram p23: symbol DART-MX8M]

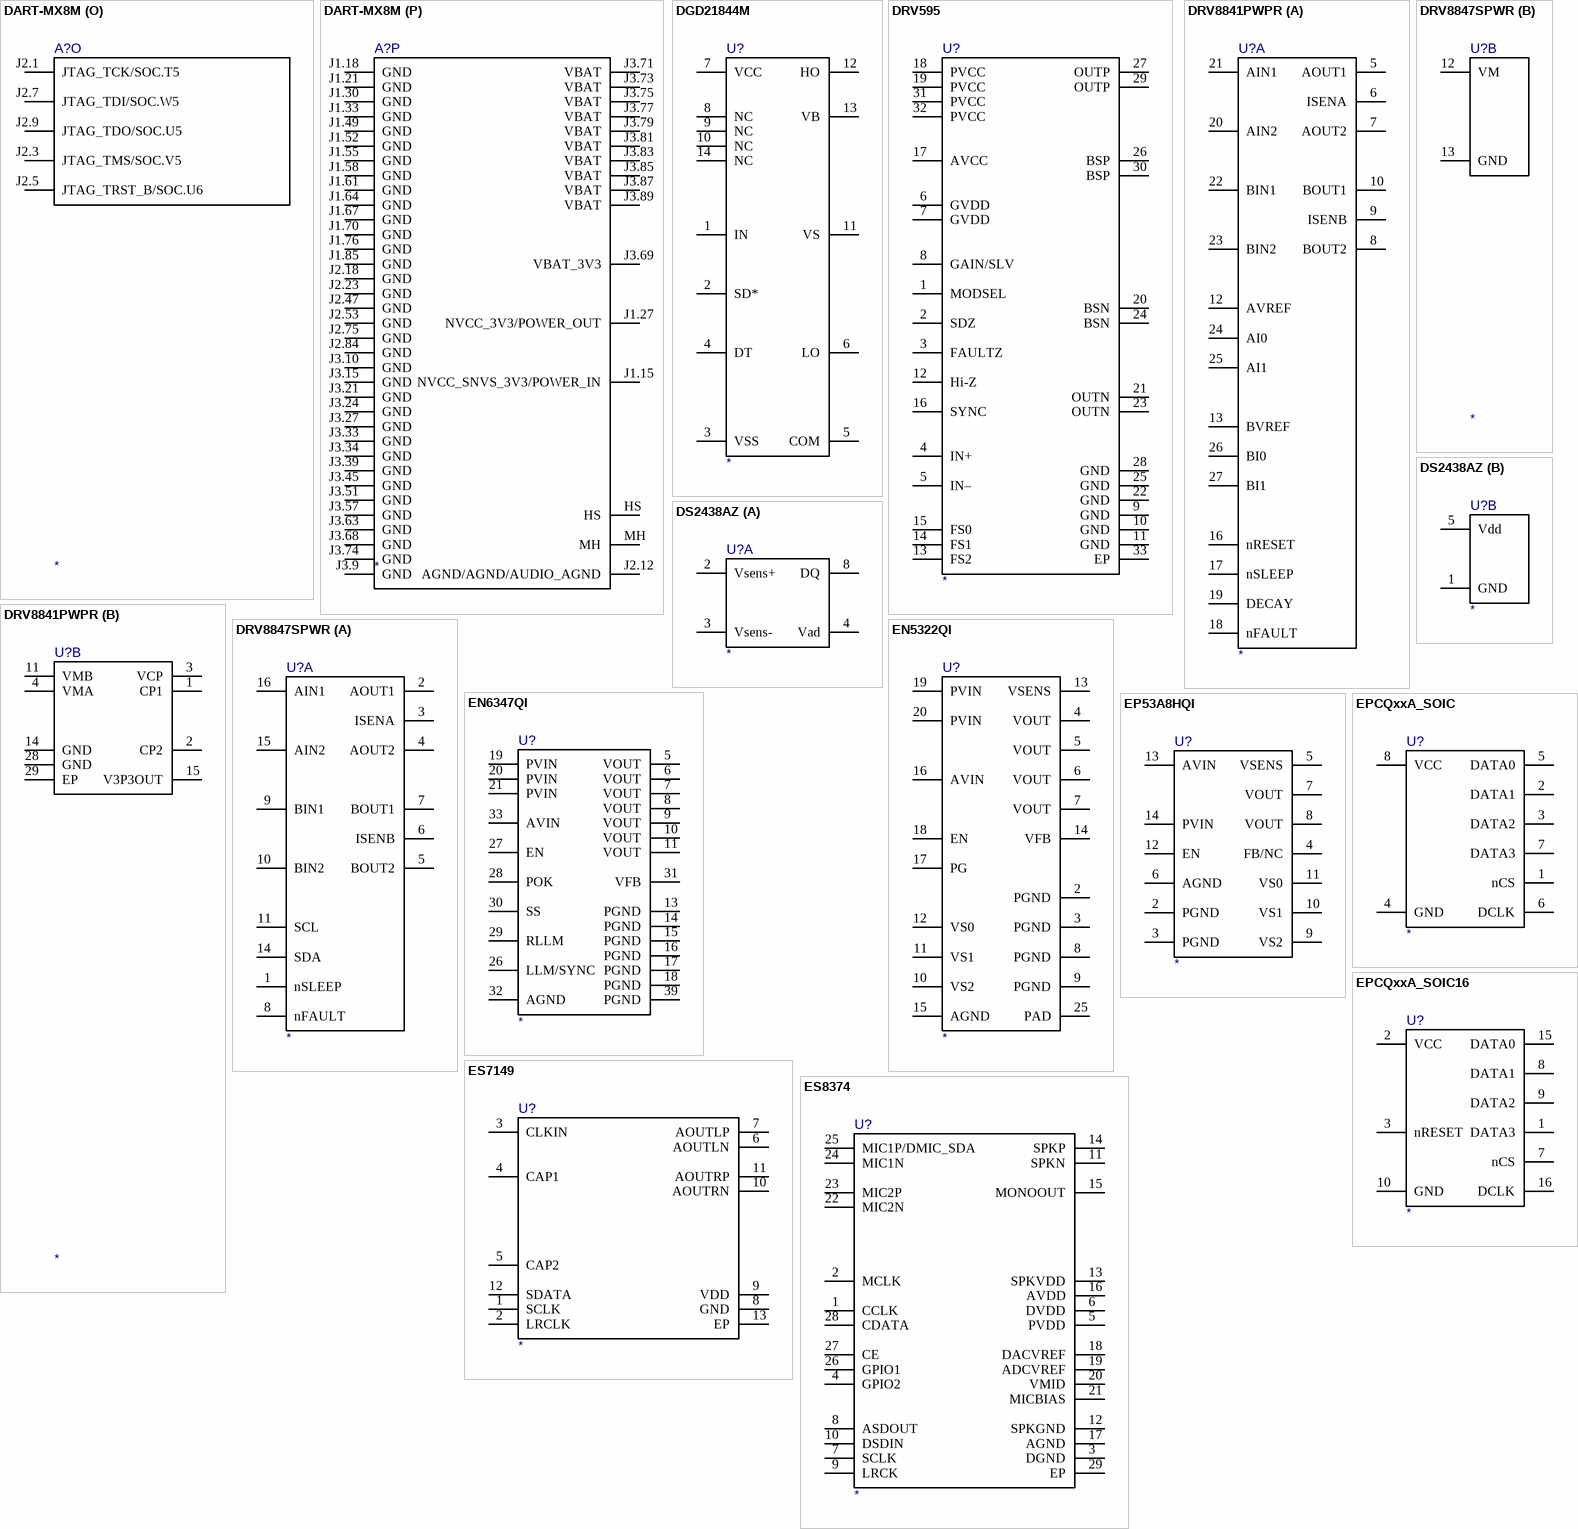
[diagram p24: symbols DART-MX8M to ES8374]